# Altium integrated library Motorola Microcontroller 8-Bit.IntLib: 909 symbols (part 17 of 31)
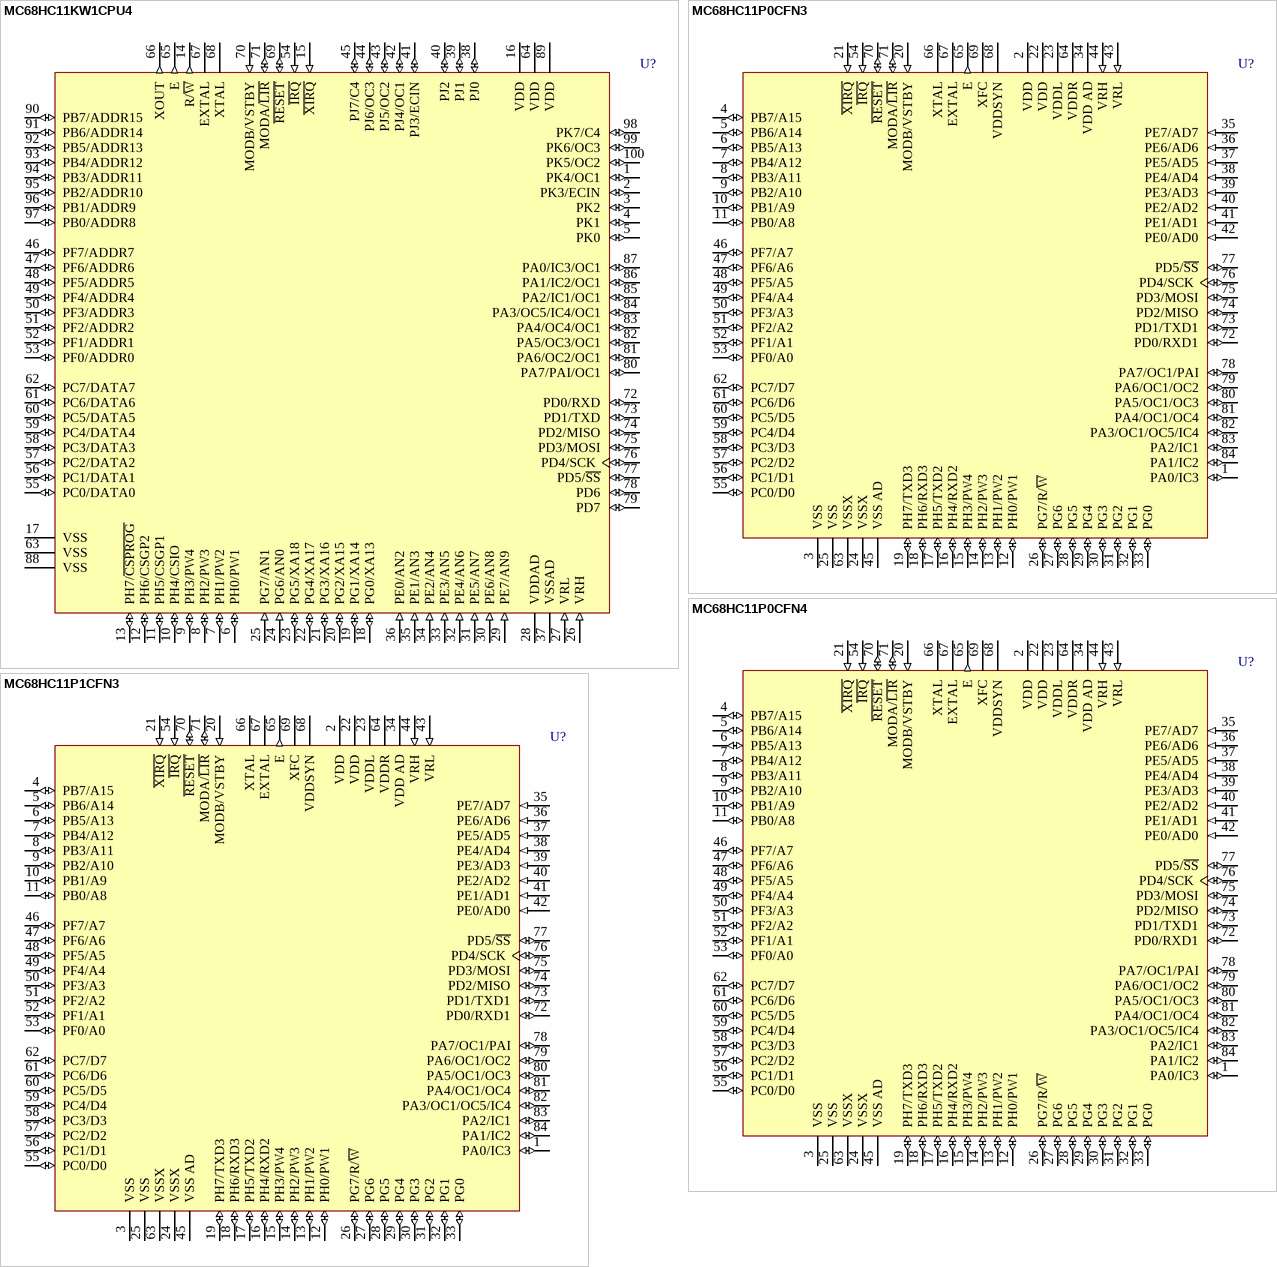
[diagram p129: symbols MC68HC11KW1CPU4 to MC68HC11P1CFN3]

## MC68HC11P0CFN3
designator U?
8-Bit Microcontroller; Published: 17-Jan-2003; LatestRevisionDate: 13-Apr-2006; LatestRevisionNote: IPC-7351 Footprint Added.; DatasheetVersion: 4-Apr-2002; PackageVersion: 1996; PackageReference: 780-01; Publisher: Altium Limited; PackageDescription: 84-Pin Leaded Chip Carrier 1.27 mm Pitch; Code_IPC: PLCC-84; ComponentLink1Description: Manufacturer Link; ComponentLink1URL: http://www.freescale.com/
footprint 780-01_N (Leaded Chip Carrier, 84-Leads, Body 29.3x29.3mm, Pitch 1.27mm, IPC Medium Density)
footprint 780-01_L (Leaded Chip Carrier, 84-Leads, Body 29.3x29.3mm, Pitch 1.27mm, IPC High Density)
footprint 780-01_M (Leaded Chip Carrier, 84-Leads, Body 29.3x29.3mm, Pitch 1.27mm, IPC Low Density)
3D model MC68HC11-780-01 (84-Pin Leaded Chip Carrier 1.27 mm Pitch)
pins: 1 PA0/IC3 (io), 2 VDD (power), 3 VSS (power), 4 PB7/A15 (io), 5 PB6/A14 (io), 6 PB5/A13 (io), 7 PB4/A12 (io), 8 PB3/A11 (io), 9 PB2/A10 (io), 10 PB1/A9 (io), 11 PB0/A8 (io), 12 PH0/PW1 (io), 13 PH1/PW2 (io), 14 PH2/PW3 (io), 15 PH3/PW4 (io), 16 PH4/RXD2 (io), 17 PH5/TXD2 (io), 18 PH6/RXD3 (io), 19 PH7/TXD3 (io), 20 MODB/VSTBY (in), 21 ~{XIRQ} (in), 22 VDD (power), 23 VDDL (power), 24 VSSX (power), 25 VSS (power), 26 PG7/R/~{W} (io), 27 PG6 (io), 28 PG5 (io), 29 PG4 (io), 30 PG3 (io), 31 PG2 (io), 32 PG1 (io), 33 PG0 (io), 34 VDD AD (power), 35 PE7/AD7 (in), 36 PE6/AD6 (in), 37 PE5/AD5 (in), 38 PE4/AD4 (in), 39 PE3/AD3 (in), 40 PE2/AD2 (in), 41 PE1/AD1 (in), 42 PE0/AD0 (in), 43 VRL (in), 44 VRH (in), 45 VSS AD (power), 46 PF7/A7 (io), 47 PF6/A6 (io), 48 PF5/A5 (io), 49 PF4/A4 (io), 50 PF3/A3 (io), 51 PF2/A2 (io), 52 PF1/A1 (io), 53 PF0/A0 (io), 54 ~{IRQ} (in), 55 PC0/D0 (io), 56 PC1/D1 (io), 57 PC2/D2 (io), 58 PC3/D3 (io), 59 PC4/D4 (io), 60 PC5/D5 (io), 61 PC6/D6 (io), 62 PC7/D7 (io), 63 VSSX (power), 64 VDDR (power), 65 E (out), 66 XTAL, 67 EXTAL, 68 VDDSYN (power), 69 XFC, 70 ~{RESET} (io), 71 MODA/~{LIR} (io), 72 PD0/RXD1 (io), 73 PD1/TXD1 (io), 74 PD2/MISO (io), 75 PD3/MOSI (io), 76 PD4/SCK (io), 77 PD5/~{SS} (io), 78 PA7/OC1/PAI (io), 79 PA6/OC1/OC2 (io), 80 PA5/OC1/OC3 (io), 81 PA4/OC1/OC4 (io), 82 PA3/OC1/OC5/IC4 (io), 83 PA2/IC1 (io), 84 PA1/IC2 (io)

## MC68HC11P0CFN4
designator U?
8-Bit Microcontroller; Published: 17-Jan-2003; LatestRevisionDate: 13-Apr-2006; LatestRevisionNote: IPC-7351 Footprint Added.; DatasheetVersion: 4-Apr-2002; PackageVersion: 1996; PackageReference: 780-01; Publisher: Altium Limited; PackageDescription: 84-Pin Leaded Chip Carrier 1.27 mm Pitch; Code_IPC: PLCC-84; ComponentLink1Description: Manufacturer Link; ComponentLink1URL: http://www.freescale.com/
footprint 780-01_N (Leaded Chip Carrier, 84-Leads, Body 29.3x29.3mm, Pitch 1.27mm, IPC Medium Density)
footprint 780-01_L (Leaded Chip Carrier, 84-Leads, Body 29.3x29.3mm, Pitch 1.27mm, IPC High Density)
footprint 780-01_M (Leaded Chip Carrier, 84-Leads, Body 29.3x29.3mm, Pitch 1.27mm, IPC Low Density)
3D model MC68HC11-780-01 (84-Pin Leaded Chip Carrier 1.27 mm Pitch)
pins: 1 PA0/IC3 (io), 2 VDD (power), 3 VSS (power), 4 PB7/A15 (io), 5 PB6/A14 (io), 6 PB5/A13 (io), 7 PB4/A12 (io), 8 PB3/A11 (io), 9 PB2/A10 (io), 10 PB1/A9 (io), 11 PB0/A8 (io), 12 PH0/PW1 (io), 13 PH1/PW2 (io), 14 PH2/PW3 (io), 15 PH3/PW4 (io), 16 PH4/RXD2 (io), 17 PH5/TXD2 (io), 18 PH6/RXD3 (io), 19 PH7/TXD3 (io), 20 MODB/VSTBY (in), 21 ~{XIRQ} (in), 22 VDD (power), 23 VDDL (power), 24 VSSX (power), 25 VSS (power), 26 PG7/R/~{W} (io), 27 PG6 (io), 28 PG5 (io), 29 PG4 (io), 30 PG3 (io), 31 PG2 (io), 32 PG1 (io), 33 PG0 (io), 34 VDD AD (power), 35 PE7/AD7 (in), 36 PE6/AD6 (in), 37 PE5/AD5 (in), 38 PE4/AD4 (in), 39 PE3/AD3 (in), 40 PE2/AD2 (in), 41 PE1/AD1 (in), 42 PE0/AD0 (in), 43 VRL (in), 44 VRH (in), 45 VSS AD (power), 46 PF7/A7 (io), 47 PF6/A6 (io), 48 PF5/A5 (io), 49 PF4/A4 (io), 50 PF3/A3 (io), 51 PF2/A2 (io), 52 PF1/A1 (io), 53 PF0/A0 (io), 54 ~{IRQ} (in), 55 PC0/D0 (io), 56 PC1/D1 (io), 57 PC2/D2 (io), 58 PC3/D3 (io), 59 PC4/D4 (io), 60 PC5/D5 (io), 61 PC6/D6 (io), 62 PC7/D7 (io), 63 VSSX (power), 64 VDDR (power), 65 E (out), 66 XTAL, 67 EXTAL, 68 VDDSYN (power), 69 XFC, 70 ~{RESET} (io), 71 MODA/~{LIR} (io), 72 PD0/RXD1 (io), 73 PD1/TXD1 (io), 74 PD2/MISO (io), 75 PD3/MOSI (io), 76 PD4/SCK (io), 77 PD5/~{SS} (io), 78 PA7/OC1/PAI (io), 79 PA6/OC1/OC2 (io), 80 PA5/OC1/OC3 (io), 81 PA4/OC1/OC4 (io), 82 PA3/OC1/OC5/IC4 (io), 83 PA2/IC1 (io), 84 PA1/IC2 (io)

## MC68HC11P1CFN3
designator U?
8-Bit Microcontroller; Published: 17-Jan-2003; LatestRevisionDate: 13-Apr-2006; LatestRevisionNote: IPC-7351 Footprint Added.; DatasheetVersion: 4-Apr-2002; PackageVersion: 1996; PackageReference: 780-01; Publisher: Altium Limited; PackageDescription: 84-Pin Leaded Chip Carrier 1.27 mm Pitch; Code_IPC: PLCC-84; ComponentLink1Description: Manufacturer Link; ComponentLink1URL: http://www.freescale.com/
footprint 780-01_N (Leaded Chip Carrier, 84-Leads, Body 29.3x29.3mm, Pitch 1.27mm, IPC Medium Density)
footprint 780-01_L (Leaded Chip Carrier, 84-Leads, Body 29.3x29.3mm, Pitch 1.27mm, IPC High Density)
footprint 780-01_M (Leaded Chip Carrier, 84-Leads, Body 29.3x29.3mm, Pitch 1.27mm, IPC Low Density)
3D model MC68HC11-780-01 (84-Pin Leaded Chip Carrier 1.27 mm Pitch)
pins: 1 PA0/IC3 (io), 2 VDD (power), 3 VSS (power), 4 PB7/A15 (io), 5 PB6/A14 (io), 6 PB5/A13 (io), 7 PB4/A12 (io), 8 PB3/A11 (io), 9 PB2/A10 (io), 10 PB1/A9 (io), 11 PB0/A8 (io), 12 PH0/PW1 (io), 13 PH1/PW2 (io), 14 PH2/PW3 (io), 15 PH3/PW4 (io), 16 PH4/RXD2 (io), 17 PH5/TXD2 (io), 18 PH6/RXD3 (io), 19 PH7/TXD3 (io), 20 MODB/VSTBY (in), 21 ~{XIRQ} (in), 22 VDD (power), 23 VDDL (power), 24 VSSX (power), 25 VSS (power), 26 PG7/R/~{W} (io), 27 PG6 (io), 28 PG5 (io), 29 PG4 (io), 30 PG3 (io), 31 PG2 (io), 32 PG1 (io), 33 PG0 (io), 34 VDD AD (power), 35 PE7/AD7 (in), 36 PE6/AD6 (in), 37 PE5/AD5 (in), 38 PE4/AD4 (in), 39 PE3/AD3 (in), 40 PE2/AD2 (in), 41 PE1/AD1 (in), 42 PE0/AD0 (in), 43 VRL (in), 44 VRH (in), 45 VSS AD (power), 46 PF7/A7 (io), 47 PF6/A6 (io), 48 PF5/A5 (io), 49 PF4/A4 (io), 50 PF3/A3 (io), 51 PF2/A2 (io), 52 PF1/A1 (io), 53 PF0/A0 (io), 54 ~{IRQ} (in), 55 PC0/D0 (io), 56 PC1/D1 (io), 57 PC2/D2 (io), 58 PC3/D3 (io), 59 PC4/D4 (io), 60 PC5/D5 (io), 61 PC6/D6 (io), 62 PC7/D7 (io), 63 VSSX (power), 64 VDDR (power), 65 E (out), 66 XTAL, 67 EXTAL, 68 VDDSYN (power), 69 XFC, 70 ~{RESET} (io), 71 MODA/~{LIR} (io), 72 PD0/RXD1 (io), 73 PD1/TXD1 (io), 74 PD2/MISO (io), 75 PD3/MOSI (io), 76 PD4/SCK (io), 77 PD5/~{SS} (io), 78 PA7/OC1/PAI (io), 79 PA6/OC1/OC2 (io), 80 PA5/OC1/OC3 (io), 81 PA4/OC1/OC4 (io), 82 PA3/OC1/OC5/IC4 (io), 83 PA2/IC1 (io), 84 PA1/IC2 (io)

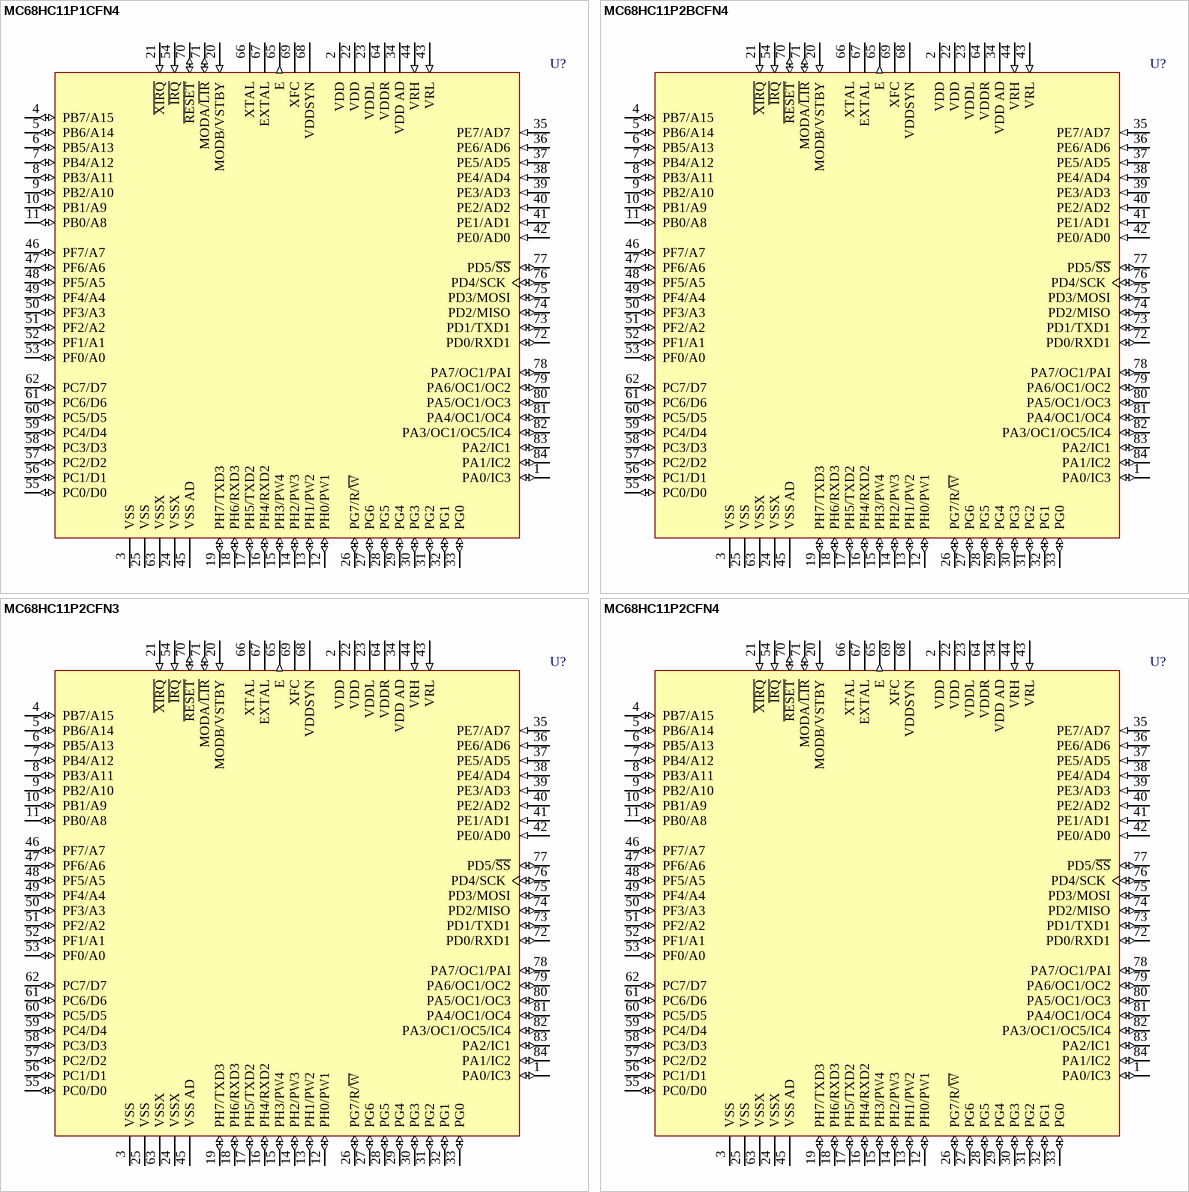
[diagram p64: symbols MC68HC11P1CFN4 to MC68HC11P2CFN4]

## MC68HC11P1CFN4
designator U?
8-Bit Microcontroller; Published: 17-Jan-2003; LatestRevisionDate: 13-Apr-2006; LatestRevisionNote: IPC-7351 Footprint Added.; DatasheetVersion: 4-Apr-2002; PackageVersion: 1996; PackageReference: 780-01; Publisher: Altium Limited; PackageDescription: 84-Pin Leaded Chip Carrier 1.27 mm Pitch; Code_IPC: PLCC-84; ComponentLink1Description: Manufacturer Link; ComponentLink1URL: http://www.freescale.com/
footprint 780-01_N (Leaded Chip Carrier, 84-Leads, Body 29.3x29.3mm, Pitch 1.27mm, IPC Medium Density)
footprint 780-01_L (Leaded Chip Carrier, 84-Leads, Body 29.3x29.3mm, Pitch 1.27mm, IPC High Density)
footprint 780-01_M (Leaded Chip Carrier, 84-Leads, Body 29.3x29.3mm, Pitch 1.27mm, IPC Low Density)
3D model MC68HC11-780-01 (84-Pin Leaded Chip Carrier 1.27 mm Pitch)
pins: 1 PA0/IC3 (io), 2 VDD (power), 3 VSS (power), 4 PB7/A15 (io), 5 PB6/A14 (io), 6 PB5/A13 (io), 7 PB4/A12 (io), 8 PB3/A11 (io), 9 PB2/A10 (io), 10 PB1/A9 (io), 11 PB0/A8 (io), 12 PH0/PW1 (io), 13 PH1/PW2 (io), 14 PH2/PW3 (io), 15 PH3/PW4 (io), 16 PH4/RXD2 (io), 17 PH5/TXD2 (io), 18 PH6/RXD3 (io), 19 PH7/TXD3 (io), 20 MODB/VSTBY (in), 21 ~{XIRQ} (in), 22 VDD (power), 23 VDDL (power), 24 VSSX (power), 25 VSS (power), 26 PG7/R/~{W} (io), 27 PG6 (io), 28 PG5 (io), 29 PG4 (io), 30 PG3 (io), 31 PG2 (io), 32 PG1 (io), 33 PG0 (io), 34 VDD AD (power), 35 PE7/AD7 (in), 36 PE6/AD6 (in), 37 PE5/AD5 (in), 38 PE4/AD4 (in), 39 PE3/AD3 (in), 40 PE2/AD2 (in), 41 PE1/AD1 (in), 42 PE0/AD0 (in), 43 VRL (in), 44 VRH (in), 45 VSS AD (power), 46 PF7/A7 (io), 47 PF6/A6 (io), 48 PF5/A5 (io), 49 PF4/A4 (io), 50 PF3/A3 (io), 51 PF2/A2 (io), 52 PF1/A1 (io), 53 PF0/A0 (io), 54 ~{IRQ} (in), 55 PC0/D0 (io), 56 PC1/D1 (io), 57 PC2/D2 (io), 58 PC3/D3 (io), 59 PC4/D4 (io), 60 PC5/D5 (io), 61 PC6/D6 (io), 62 PC7/D7 (io), 63 VSSX (power), 64 VDDR (power), 65 E (out), 66 XTAL, 67 EXTAL, 68 VDDSYN (power), 69 XFC, 70 ~{RESET} (io), 71 MODA/~{LIR} (io), 72 PD0/RXD1 (io), 73 PD1/TXD1 (io), 74 PD2/MISO (io), 75 PD3/MOSI (io), 76 PD4/SCK (io), 77 PD5/~{SS} (io), 78 PA7/OC1/PAI (io), 79 PA6/OC1/OC2 (io), 80 PA5/OC1/OC3 (io), 81 PA4/OC1/OC4 (io), 82 PA3/OC1/OC5/IC4 (io), 83 PA2/IC1 (io), 84 PA1/IC2 (io)

## MC68HC11P2BCFN4
designator U?
8-Bit Microcontroller; Published: 17-Jan-2003; LatestRevisionDate: 13-Apr-2006; LatestRevisionNote: IPC-7351 Footprint Added.; DatasheetVersion: 4-Apr-2002; PackageVersion: 1996; PackageReference: 780-01; Publisher: Altium Limited; PackageDescription: 84-Pin Leaded Chip Carrier 1.27 mm Pitch; Code_IPC: PLCC-84; ComponentLink1Description: Manufacturer Link; ComponentLink1URL: http://www.freescale.com/
footprint 780-01_N (Leaded Chip Carrier, 84-Leads, Body 29.3x29.3mm, Pitch 1.27mm, IPC Medium Density)
footprint 780-01_L (Leaded Chip Carrier, 84-Leads, Body 29.3x29.3mm, Pitch 1.27mm, IPC High Density)
footprint 780-01_M (Leaded Chip Carrier, 84-Leads, Body 29.3x29.3mm, Pitch 1.27mm, IPC Low Density)
3D model MC68HC11-780-01 (84-Pin Leaded Chip Carrier 1.27 mm Pitch)
pins: 1 PA0/IC3 (io), 2 VDD (power), 3 VSS (power), 4 PB7/A15 (io), 5 PB6/A14 (io), 6 PB5/A13 (io), 7 PB4/A12 (io), 8 PB3/A11 (io), 9 PB2/A10 (io), 10 PB1/A9 (io), 11 PB0/A8 (io), 12 PH0/PW1 (io), 13 PH1/PW2 (io), 14 PH2/PW3 (io), 15 PH3/PW4 (io), 16 PH4/RXD2 (io), 17 PH5/TXD2 (io), 18 PH6/RXD3 (io), 19 PH7/TXD3 (io), 20 MODB/VSTBY (in), 21 ~{XIRQ} (in), 22 VDD (power), 23 VDDL (power), 24 VSSX (power), 25 VSS (power), 26 PG7/R/~{W} (io), 27 PG6 (io), 28 PG5 (io), 29 PG4 (io), 30 PG3 (io), 31 PG2 (io), 32 PG1 (io), 33 PG0 (io), 34 VDD AD (power), 35 PE7/AD7 (in), 36 PE6/AD6 (in), 37 PE5/AD5 (in), 38 PE4/AD4 (in), 39 PE3/AD3 (in), 40 PE2/AD2 (in), 41 PE1/AD1 (in), 42 PE0/AD0 (in), 43 VRL (in), 44 VRH (in), 45 VSS AD (power), 46 PF7/A7 (io), 47 PF6/A6 (io), 48 PF5/A5 (io), 49 PF4/A4 (io), 50 PF3/A3 (io), 51 PF2/A2 (io), 52 PF1/A1 (io), 53 PF0/A0 (io), 54 ~{IRQ} (in), 55 PC0/D0 (io), 56 PC1/D1 (io), 57 PC2/D2 (io), 58 PC3/D3 (io), 59 PC4/D4 (io), 60 PC5/D5 (io), 61 PC6/D6 (io), 62 PC7/D7 (io), 63 VSSX (power), 64 VDDR (power), 65 E (out), 66 XTAL, 67 EXTAL, 68 VDDSYN (power), 69 XFC, 70 ~{RESET} (io), 71 MODA/~{LIR} (io), 72 PD0/RXD1 (io), 73 PD1/TXD1 (io), 74 PD2/MISO (io), 75 PD3/MOSI (io), 76 PD4/SCK (io), 77 PD5/~{SS} (io), 78 PA7/OC1/PAI (io), 79 PA6/OC1/OC2 (io), 80 PA5/OC1/OC3 (io), 81 PA4/OC1/OC4 (io), 82 PA3/OC1/OC5/IC4 (io), 83 PA2/IC1 (io), 84 PA1/IC2 (io)

## MC68HC11P2CFN3
designator U?
8-Bit Microcontroller; Published: 17-Jan-2003; LatestRevisionDate: 13-Apr-2006; LatestRevisionNote: IPC-7351 Footprint Added.; DatasheetVersion: 4-Apr-2002; PackageVersion: 1996; PackageReference: 780-01; Publisher: Altium Limited; PackageDescription: 84-Pin Leaded Chip Carrier 1.27 mm Pitch; Code_IPC: PLCC-84; ComponentLink1Description: Manufacturer Link; ComponentLink1URL: http://www.freescale.com/
footprint 780-01_N (Leaded Chip Carrier, 84-Leads, Body 29.3x29.3mm, Pitch 1.27mm, IPC Medium Density)
footprint 780-01_L (Leaded Chip Carrier, 84-Leads, Body 29.3x29.3mm, Pitch 1.27mm, IPC High Density)
footprint 780-01_M (Leaded Chip Carrier, 84-Leads, Body 29.3x29.3mm, Pitch 1.27mm, IPC Low Density)
3D model MC68HC11-780-01 (84-Pin Leaded Chip Carrier 1.27 mm Pitch)
pins: 1 PA0/IC3 (io), 2 VDD (power), 3 VSS (power), 4 PB7/A15 (io), 5 PB6/A14 (io), 6 PB5/A13 (io), 7 PB4/A12 (io), 8 PB3/A11 (io), 9 PB2/A10 (io), 10 PB1/A9 (io), 11 PB0/A8 (io), 12 PH0/PW1 (io), 13 PH1/PW2 (io), 14 PH2/PW3 (io), 15 PH3/PW4 (io), 16 PH4/RXD2 (io), 17 PH5/TXD2 (io), 18 PH6/RXD3 (io), 19 PH7/TXD3 (io), 20 MODB/VSTBY (in), 21 ~{XIRQ} (in), 22 VDD (power), 23 VDDL (power), 24 VSSX (power), 25 VSS (power), 26 PG7/R/~{W} (io), 27 PG6 (io), 28 PG5 (io), 29 PG4 (io), 30 PG3 (io), 31 PG2 (io), 32 PG1 (io), 33 PG0 (io), 34 VDD AD (power), 35 PE7/AD7 (in), 36 PE6/AD6 (in), 37 PE5/AD5 (in), 38 PE4/AD4 (in), 39 PE3/AD3 (in), 40 PE2/AD2 (in), 41 PE1/AD1 (in), 42 PE0/AD0 (in), 43 VRL (in), 44 VRH (in), 45 VSS AD (power), 46 PF7/A7 (io), 47 PF6/A6 (io), 48 PF5/A5 (io), 49 PF4/A4 (io), 50 PF3/A3 (io), 51 PF2/A2 (io), 52 PF1/A1 (io), 53 PF0/A0 (io), 54 ~{IRQ} (in), 55 PC0/D0 (io), 56 PC1/D1 (io), 57 PC2/D2 (io), 58 PC3/D3 (io), 59 PC4/D4 (io), 60 PC5/D5 (io), 61 PC6/D6 (io), 62 PC7/D7 (io), 63 VSSX (power), 64 VDDR (power), 65 E (out), 66 XTAL, 67 EXTAL, 68 VDDSYN (power), 69 XFC, 70 ~{RESET} (io), 71 MODA/~{LIR} (io), 72 PD0/RXD1 (io), 73 PD1/TXD1 (io), 74 PD2/MISO (io), 75 PD3/MOSI (io), 76 PD4/SCK (io), 77 PD5/~{SS} (io), 78 PA7/OC1/PAI (io), 79 PA6/OC1/OC2 (io), 80 PA5/OC1/OC3 (io), 81 PA4/OC1/OC4 (io), 82 PA3/OC1/OC5/IC4 (io), 83 PA2/IC1 (io), 84 PA1/IC2 (io)

## MC68HC11P2CFN4
designator U?
8-Bit Microcontroller; Published: 17-Jan-2003; LatestRevisionDate: 13-Apr-2006; LatestRevisionNote: IPC-7351 Footprint Added.; DatasheetVersion: 4-Apr-2002; PackageVersion: 1996; PackageReference: 780-01; Publisher: Altium Limited; PackageDescription: 84-Pin Leaded Chip Carrier 1.27 mm Pitch; Code_IPC: PLCC-84; ComponentLink1Description: Manufacturer Link; ComponentLink1URL: http://www.freescale.com/
footprint 780-01_N (Leaded Chip Carrier, 84-Leads, Body 29.3x29.3mm, Pitch 1.27mm, IPC Medium Density)
footprint 780-01_L (Leaded Chip Carrier, 84-Leads, Body 29.3x29.3mm, Pitch 1.27mm, IPC High Density)
footprint 780-01_M (Leaded Chip Carrier, 84-Leads, Body 29.3x29.3mm, Pitch 1.27mm, IPC Low Density)
3D model MC68HC11-780-01 (84-Pin Leaded Chip Carrier 1.27 mm Pitch)
pins: 1 PA0/IC3 (io), 2 VDD (power), 3 VSS (power), 4 PB7/A15 (io), 5 PB6/A14 (io), 6 PB5/A13 (io), 7 PB4/A12 (io), 8 PB3/A11 (io), 9 PB2/A10 (io), 10 PB1/A9 (io), 11 PB0/A8 (io), 12 PH0/PW1 (io), 13 PH1/PW2 (io), 14 PH2/PW3 (io), 15 PH3/PW4 (io), 16 PH4/RXD2 (io), 17 PH5/TXD2 (io), 18 PH6/RXD3 (io), 19 PH7/TXD3 (io), 20 MODB/VSTBY (in), 21 ~{XIRQ} (in), 22 VDD (power), 23 VDDL (power), 24 VSSX (power), 25 VSS (power), 26 PG7/R/~{W} (io), 27 PG6 (io), 28 PG5 (io), 29 PG4 (io), 30 PG3 (io), 31 PG2 (io), 32 PG1 (io), 33 PG0 (io), 34 VDD AD (power), 35 PE7/AD7 (in), 36 PE6/AD6 (in), 37 PE5/AD5 (in), 38 PE4/AD4 (in), 39 PE3/AD3 (in), 40 PE2/AD2 (in), 41 PE1/AD1 (in), 42 PE0/AD0 (in), 43 VRL (in), 44 VRH (in), 45 VSS AD (power), 46 PF7/A7 (io), 47 PF6/A6 (io), 48 PF5/A5 (io), 49 PF4/A4 (io), 50 PF3/A3 (io), 51 PF2/A2 (io), 52 PF1/A1 (io), 53 PF0/A0 (io), 54 ~{IRQ} (in), 55 PC0/D0 (io), 56 PC1/D1 (io), 57 PC2/D2 (io), 58 PC3/D3 (io), 59 PC4/D4 (io), 60 PC5/D5 (io), 61 PC6/D6 (io), 62 PC7/D7 (io), 63 VSSX (power), 64 VDDR (power), 65 E (out), 66 XTAL, 67 EXTAL, 68 VDDSYN (power), 69 XFC, 70 ~{RESET} (io), 71 MODA/~{LIR} (io), 72 PD0/RXD1 (io), 73 PD1/TXD1 (io), 74 PD2/MISO (io), 75 PD3/MOSI (io), 76 PD4/SCK (io), 77 PD5/~{SS} (io), 78 PA7/OC1/PAI (io), 79 PA6/OC1/OC2 (io), 80 PA5/OC1/OC3 (io), 81 PA4/OC1/OC4 (io), 82 PA3/OC1/OC5/IC4 (io), 83 PA2/IC1 (io), 84 PA1/IC2 (io)

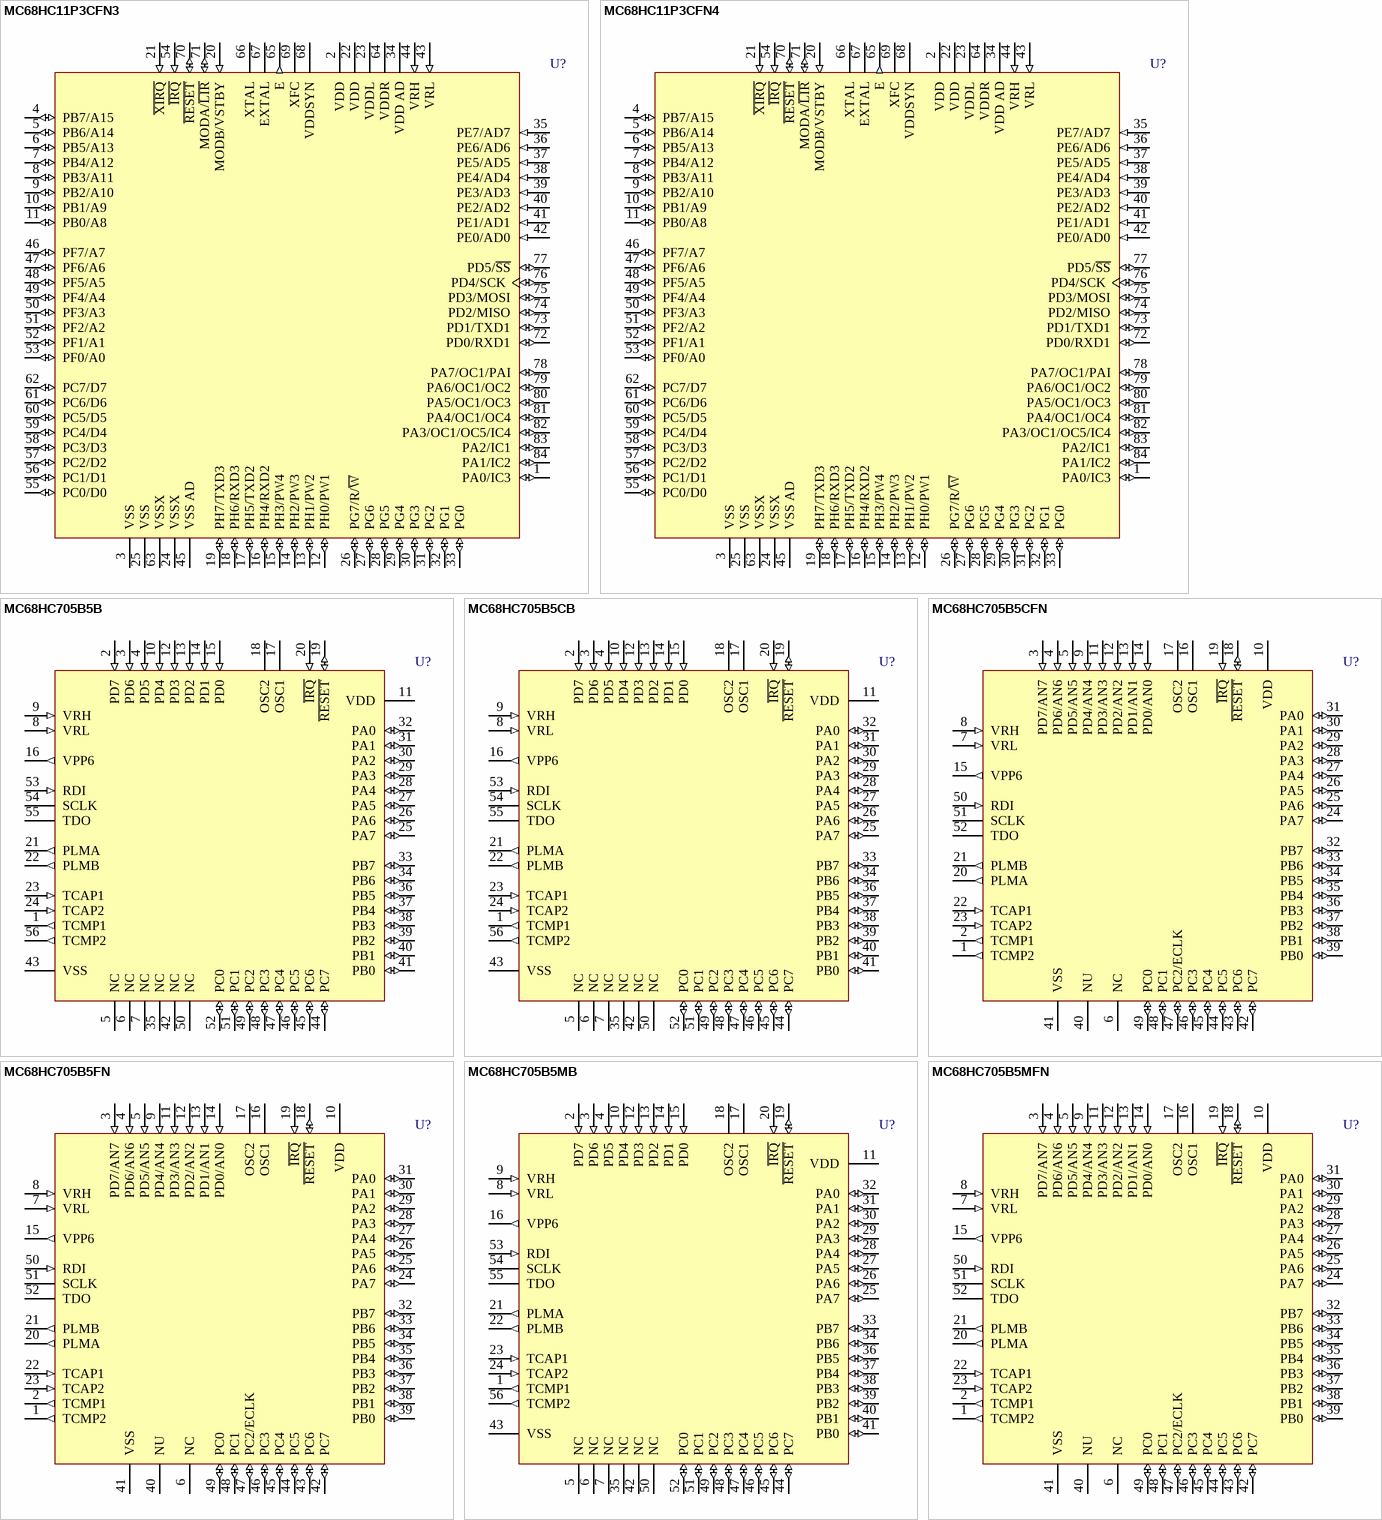
[diagram p65: symbols MC68HC11P3CFN3 to MC68HC705B5MFN]

## MC68HC11P3CFN3
designator U?
8-Bit Microcontroller; Published: 17-Jan-2003; LatestRevisionDate: 13-Apr-2006; LatestRevisionNote: IPC-7351 Footprint Added.; DatasheetVersion: 4-Apr-2002; PackageVersion: 1996; PackageReference: 780-01; Publisher: Altium Limited; PackageDescription: 84-Pin Leaded Chip Carrier 1.27 mm Pitch; Code_IPC: PLCC-84; ComponentLink1Description: Manufacturer Link; ComponentLink1URL: http://www.freescale.com/
footprint 780-01_N (Leaded Chip Carrier, 84-Leads, Body 29.3x29.3mm, Pitch 1.27mm, IPC Medium Density)
footprint 780-01_L (Leaded Chip Carrier, 84-Leads, Body 29.3x29.3mm, Pitch 1.27mm, IPC High Density)
footprint 780-01_M (Leaded Chip Carrier, 84-Leads, Body 29.3x29.3mm, Pitch 1.27mm, IPC Low Density)
3D model MC68HC11-780-01 (84-Pin Leaded Chip Carrier 1.27 mm Pitch)
pins: 1 PA0/IC3 (io), 2 VDD (power), 3 VSS (power), 4 PB7/A15 (io), 5 PB6/A14 (io), 6 PB5/A13 (io), 7 PB4/A12 (io), 8 PB3/A11 (io), 9 PB2/A10 (io), 10 PB1/A9 (io), 11 PB0/A8 (io), 12 PH0/PW1 (io), 13 PH1/PW2 (io), 14 PH2/PW3 (io), 15 PH3/PW4 (io), 16 PH4/RXD2 (io), 17 PH5/TXD2 (io), 18 PH6/RXD3 (io), 19 PH7/TXD3 (io), 20 MODB/VSTBY (in), 21 ~{XIRQ} (in), 22 VDD (power), 23 VDDL (power), 24 VSSX (power), 25 VSS (power), 26 PG7/R/~{W} (io), 27 PG6 (io), 28 PG5 (io), 29 PG4 (io), 30 PG3 (io), 31 PG2 (io), 32 PG1 (io), 33 PG0 (io), 34 VDD AD (power), 35 PE7/AD7 (in), 36 PE6/AD6 (in), 37 PE5/AD5 (in), 38 PE4/AD4 (in), 39 PE3/AD3 (in), 40 PE2/AD2 (in), 41 PE1/AD1 (in), 42 PE0/AD0 (in), 43 VRL (in), 44 VRH (in), 45 VSS AD (power), 46 PF7/A7 (io), 47 PF6/A6 (io), 48 PF5/A5 (io), 49 PF4/A4 (io), 50 PF3/A3 (io), 51 PF2/A2 (io), 52 PF1/A1 (io), 53 PF0/A0 (io), 54 ~{IRQ} (in), 55 PC0/D0 (io), 56 PC1/D1 (io), 57 PC2/D2 (io), 58 PC3/D3 (io), 59 PC4/D4 (io), 60 PC5/D5 (io), 61 PC6/D6 (io), 62 PC7/D7 (io), 63 VSSX (power), 64 VDDR (power), 65 E (out), 66 XTAL, 67 EXTAL, 68 VDDSYN (power), 69 XFC, 70 ~{RESET} (io), 71 MODA/~{LIR} (io), 72 PD0/RXD1 (io), 73 PD1/TXD1 (io), 74 PD2/MISO (io), 75 PD3/MOSI (io), 76 PD4/SCK (io), 77 PD5/~{SS} (io), 78 PA7/OC1/PAI (io), 79 PA6/OC1/OC2 (io), 80 PA5/OC1/OC3 (io), 81 PA4/OC1/OC4 (io), 82 PA3/OC1/OC5/IC4 (io), 83 PA2/IC1 (io), 84 PA1/IC2 (io)

## MC68HC11P3CFN4
designator U?
8-Bit Microcontroller; Published: 17-Jan-2003; LatestRevisionDate: 13-Apr-2006; LatestRevisionNote: IPC-7351 Footprint Added.; DatasheetVersion: 4-Apr-2002; PackageVersion: 1996; PackageReference: 780-01; Publisher: Altium Limited; PackageDescription: 84-Pin Leaded Chip Carrier 1.27 mm Pitch; Code_IPC: PLCC-84; ComponentLink1Description: Manufacturer Link; ComponentLink1URL: http://www.freescale.com/
footprint 780-01_N (Leaded Chip Carrier, 84-Leads, Body 29.3x29.3mm, Pitch 1.27mm, IPC Medium Density)
footprint 780-01_L (Leaded Chip Carrier, 84-Leads, Body 29.3x29.3mm, Pitch 1.27mm, IPC High Density)
footprint 780-01_M (Leaded Chip Carrier, 84-Leads, Body 29.3x29.3mm, Pitch 1.27mm, IPC Low Density)
3D model MC68HC11-780-01 (84-Pin Leaded Chip Carrier 1.27 mm Pitch)
pins: 1 PA0/IC3 (io), 2 VDD (power), 3 VSS (power), 4 PB7/A15 (io), 5 PB6/A14 (io), 6 PB5/A13 (io), 7 PB4/A12 (io), 8 PB3/A11 (io), 9 PB2/A10 (io), 10 PB1/A9 (io), 11 PB0/A8 (io), 12 PH0/PW1 (io), 13 PH1/PW2 (io), 14 PH2/PW3 (io), 15 PH3/PW4 (io), 16 PH4/RXD2 (io), 17 PH5/TXD2 (io), 18 PH6/RXD3 (io), 19 PH7/TXD3 (io), 20 MODB/VSTBY (in), 21 ~{XIRQ} (in), 22 VDD (power), 23 VDDL (power), 24 VSSX (power), 25 VSS (power), 26 PG7/R/~{W} (io), 27 PG6 (io), 28 PG5 (io), 29 PG4 (io), 30 PG3 (io), 31 PG2 (io), 32 PG1 (io), 33 PG0 (io), 34 VDD AD (power), 35 PE7/AD7 (in), 36 PE6/AD6 (in), 37 PE5/AD5 (in), 38 PE4/AD4 (in), 39 PE3/AD3 (in), 40 PE2/AD2 (in), 41 PE1/AD1 (in), 42 PE0/AD0 (in), 43 VRL (in), 44 VRH (in), 45 VSS AD (power), 46 PF7/A7 (io), 47 PF6/A6 (io), 48 PF5/A5 (io), 49 PF4/A4 (io), 50 PF3/A3 (io), 51 PF2/A2 (io), 52 PF1/A1 (io), 53 PF0/A0 (io), 54 ~{IRQ} (in), 55 PC0/D0 (io), 56 PC1/D1 (io), 57 PC2/D2 (io), 58 PC3/D3 (io), 59 PC4/D4 (io), 60 PC5/D5 (io), 61 PC6/D6 (io), 62 PC7/D7 (io), 63 VSSX (power), 64 VDDR (power), 65 E (out), 66 XTAL, 67 EXTAL, 68 VDDSYN (power), 69 XFC, 70 ~{RESET} (io), 71 MODA/~{LIR} (io), 72 PD0/RXD1 (io), 73 PD1/TXD1 (io), 74 PD2/MISO (io), 75 PD3/MOSI (io), 76 PD4/SCK (io), 77 PD5/~{SS} (io), 78 PA7/OC1/PAI (io), 79 PA6/OC1/OC2 (io), 80 PA5/OC1/OC3 (io), 81 PA4/OC1/OC4 (io), 82 PA3/OC1/OC5/IC4 (io), 83 PA2/IC1 (io), 84 PA1/IC2 (io)

## MC68HC705B5B
designator U?
8-Bit Microcontroller; Published: 17-Jan-2003; LatestRevisionDate: 06-Jun-2005; LatestRevisionNote: Stylized 3D Model Added.; DatasheetVersion: Rev 4, 1999; PackageVersion: rev4, 1999; PackageReference: 859-01; Publisher: Altium Limited; PackageDescription: DIP; 56 Leads; Row Spacing 15.24 mm; Pitch 1.778 mm; ComponentLink1Description: Manufacturer Link; ComponentLink1URL: http://www.freescale.com/; ComponentLink2Description: Datasheet; ComponentLink2URL: http://www.freescale.com/files/microcontrollers/doc/data_sheet/MC68HC05B6.pdf
footprint 859-01 (DIP; 56 Leads; Row Spacing 15.24 mm; Pitch 1.778 mm)
3D model 859-01 (DIP; 56 Leads; Row Spacing 15.24 mm; Pitch 1.778 mm)
pins: 1 TCMP1 (out), 2 PD7 (in), 3 PD6 (in), 4 PD5 (in), 5 NC, 6 NC, 7 NC, 8 VRL (in), 9 VRH (in), 10 PD4 (in), 11 VDD (power), 12 PD3 (in), 13 PD2 (in), 14 PD1 (in), 15 PD0 (in), 16 VPP6 (out), 17 OSC1, 18 OSC2, 19 ~{RESET} (io), 20 ~{IRQ} (in), 21 PLMA (out), 22 PLMB (out), 23 TCAP1 (in), 24 TCAP2 (in), 25 PA7 (io), 26 PA6 (io), 27 PA5 (io), 28 PA4 (io), 29 PA3 (io), 30 PA2 (io), 31 PA1 (io), 32 PA0 (io), 33 PB7 (io), 34 PB6 (io), 35 NC, 36 PB5 (io), 37 PB4 (io), 38 PB3 (io), 39 PB2 (io), 40 PB1 (io), 41 PB0 (io), 42 NC, 43 VSS (power), 44 PC7 (io), 45 PC6 (io), 46 PC5 (io), 47 PC4 (io), 48 PC3 (io), 49 PC2 (io), 50 NC, 51 PC1 (io), 52 PC0 (io), 53 RDI (in), 54 SCLK (hiz), 55 TDO (hiz), 56 TCMP2 (out)

## MC68HC705B5CB
designator U?
8-Bit Microcontroller; Published: 17-Jan-2003; LatestRevisionDate: 06-Jun-2005; LatestRevisionNote: Stylized 3D Model Added.; DatasheetVersion: Rev 4, 1999; PackageVersion: rev4, 1999; PackageReference: 859-01; Publisher: Altium Limited; PackageDescription: DIP; 56 Leads; Row Spacing 15.24 mm; Pitch 1.778 mm; ComponentLink1Description: Manufacturer Link; ComponentLink1URL: http://www.freescale.com/; ComponentLink2Description: Datasheet; ComponentLink2URL: http://www.freescale.com/files/microcontrollers/doc/data_sheet/MC68HC05B6.pdf
footprint 859-01 (DIP; 56 Leads; Row Spacing 15.24 mm; Pitch 1.778 mm)
3D model 859-01 (DIP; 56 Leads; Row Spacing 15.24 mm; Pitch 1.778 mm)
pins: 1 TCMP1 (out), 2 PD7 (in), 3 PD6 (in), 4 PD5 (in), 5 NC, 6 NC, 7 NC, 8 VRL (in), 9 VRH (in), 10 PD4 (in), 11 VDD (power), 12 PD3 (in), 13 PD2 (in), 14 PD1 (in), 15 PD0 (in), 16 VPP6 (out), 17 OSC1, 18 OSC2, 19 ~{RESET} (io), 20 ~{IRQ} (in), 21 PLMA (out), 22 PLMB (out), 23 TCAP1 (in), 24 TCAP2 (in), 25 PA7 (io), 26 PA6 (io), 27 PA5 (io), 28 PA4 (io), 29 PA3 (io), 30 PA2 (io), 31 PA1 (io), 32 PA0 (io), 33 PB7 (io), 34 PB6 (io), 35 NC, 36 PB5 (io), 37 PB4 (io), 38 PB3 (io), 39 PB2 (io), 40 PB1 (io), 41 PB0 (io), 42 NC, 43 VSS (power), 44 PC7 (io), 45 PC6 (io), 46 PC5 (io), 47 PC4 (io), 48 PC3 (io), 49 PC2 (io), 50 NC, 51 PC1 (io), 52 PC0 (io), 53 RDI (in), 54 SCLK (hiz), 55 TDO (hiz), 56 TCMP2 (out)

## MC68HC705B5CFN
designator U?
8-Bit Microcontroller; Note: Pin 40 (NU) should be tied to VSS in an electrically noisy environment.; Published: 17-Jan-2003; LatestRevisionDate: 13-Apr-2006; LatestRevisionNote: IPC-7351 Footprint Added.; DatasheetVersion: Rev 4, 1999; PackageVersion: rev3, 1997; PackageReference: 778-02; Publisher: Altium Limited; PackageDescription: 52-Pin Plastic Leaded Chip Carrier 1.27 mm Pitch; ComponentLink1Description: Manufacturer Link; ComponentLink1URL: http://www.freescale.com/; ComponentLink2Description: Datasheet; ComponentLink2URL: http://www.freescale.com/files/microcontrollers/doc/data_sheet/MC68HC05B6.pdf
footprint 778-02_N (Leaded Chip Carrier, 52-Leads, Body 19x19mm, Pitch 1.27mm, IPC Medium Density)
footprint 778-02_L (Leaded Chip Carrier, 52-Leads, Body 19x19mm, Pitch 1.27mm, IPC High Density)
footprint 778-02_M (Leaded Chip Carrier, 52-Leads, Body 19x19mm, Pitch 1.27mm, IPC Low Density)
3D model MC68HC705-778-02 (52-Pin Plastic Leaded Chip Carrier 1.27 mm Pitch)
pins: 1 TCMP2 (out), 2 TCMP1 (out), 3 PD7/AN7 (in), 4 PD6/AN6 (in), 5 PD5/AN5 (in), 6 NC, 7 VRL (in), 8 VRH (in), 9 PD4/AN4 (in), 10 VDD (power), 11 PD3/AN3 (in), 12 PD2/AN2 (in), 13 PD1/AN1 (in), 14 PD0/AN0 (in), 15 VPP6 (out), 16 OSC1, 17 OSC2, 18 ~{RESET} (io), 19 ~{IRQ} (in), 20 PLMA (out), 21 PLMB (out), 22 TCAP1 (in), 23 TCAP2 (in), 24 PA7 (io), 25 PA6 (io), 26 PA5 (io), 27 PA4 (io), 28 PA3 (io), 29 PA2 (io), 30 PA1 (io), 31 PA0 (io), 32 PB7 (io), 33 PB6 (io), 34 PB5 (io), 35 PB4 (io), 36 PB3 (io), 37 PB2 (io), 38 PB1 (io), 39 PB0 (io), 40 NU, 41 VSS (power), 42 PC7 (io), 43 PC6 (io), 44 PC5 (io), 45 PC4 (io), 46 PC3 (io), 47 PC2/ECLK (io), 48 PC1 (io), 49 PC0 (io), 50 RDI (in), 51 SCLK (hiz), 52 TDO (hiz)

## MC68HC705B5FN
designator U?
8-Bit Microcontroller; Note: Pin 40 (NU) should be tied to VSS in an electrically noisy environment.; Published: 17-Jan-2003; LatestRevisionDate: 13-Apr-2006; LatestRevisionNote: IPC-7351 Footprint Added.; DatasheetVersion: Rev 4, 1999; PackageVersion: rev3, 1997; PackageReference: 778-02; Publisher: Altium Limited; PackageDescription: 52-Pin Plastic Leaded Chip Carrier 1.27 mm Pitch; ComponentLink1Description: Manufacturer Link; ComponentLink1URL: http://www.freescale.com/; ComponentLink2Description: Datasheet; ComponentLink2URL: http://www.freescale.com/files/microcontrollers/doc/data_sheet/MC68HC05B6.pdf
footprint 778-02_N (Leaded Chip Carrier, 52-Leads, Body 19x19mm, Pitch 1.27mm, IPC Medium Density)
footprint 778-02_L (Leaded Chip Carrier, 52-Leads, Body 19x19mm, Pitch 1.27mm, IPC High Density)
footprint 778-02_M (Leaded Chip Carrier, 52-Leads, Body 19x19mm, Pitch 1.27mm, IPC Low Density)
3D model MC68HC705-778-02 (52-Pin Plastic Leaded Chip Carrier 1.27 mm Pitch)
pins: 1 TCMP2 (out), 2 TCMP1 (out), 3 PD7/AN7 (in), 4 PD6/AN6 (in), 5 PD5/AN5 (in), 6 NC, 7 VRL (in), 8 VRH (in), 9 PD4/AN4 (in), 10 VDD (power), 11 PD3/AN3 (in), 12 PD2/AN2 (in), 13 PD1/AN1 (in), 14 PD0/AN0 (in), 15 VPP6 (out), 16 OSC1, 17 OSC2, 18 ~{RESET} (io), 19 ~{IRQ} (in), 20 PLMA (out), 21 PLMB (out), 22 TCAP1 (in), 23 TCAP2 (in), 24 PA7 (io), 25 PA6 (io), 26 PA5 (io), 27 PA4 (io), 28 PA3 (io), 29 PA2 (io), 30 PA1 (io), 31 PA0 (io), 32 PB7 (io), 33 PB6 (io), 34 PB5 (io), 35 PB4 (io), 36 PB3 (io), 37 PB2 (io), 38 PB1 (io), 39 PB0 (io), 40 NU, 41 VSS (power), 42 PC7 (io), 43 PC6 (io), 44 PC5 (io), 45 PC4 (io), 46 PC3 (io), 47 PC2/ECLK (io), 48 PC1 (io), 49 PC0 (io), 50 RDI (in), 51 SCLK (hiz), 52 TDO (hiz)

## MC68HC705B5MB
designator U?
8-Bit Microcontroller; Published: 17-Jan-2003; LatestRevisionDate: 06-Jun-2005; LatestRevisionNote: Stylized 3D Model Added.; DatasheetVersion: Rev 4, 1999; PackageVersion: rev4, 1999; PackageReference: 859-01; Publisher: Altium Limited; PackageDescription: DIP; 56 Leads; Row Spacing 15.24 mm; Pitch 1.778 mm; ComponentLink1Description: Manufacturer Link; ComponentLink1URL: http://www.freescale.com/; ComponentLink2Description: Datasheet; ComponentLink2URL: http://www.freescale.com/files/microcontrollers/doc/data_sheet/MC68HC05B6.pdf
footprint 859-01 (DIP; 56 Leads; Row Spacing 15.24 mm; Pitch 1.778 mm)
3D model 859-01 (DIP; 56 Leads; Row Spacing 15.24 mm; Pitch 1.778 mm)
pins: 1 TCMP1 (out), 2 PD7 (in), 3 PD6 (in), 4 PD5 (in), 5 NC, 6 NC, 7 NC, 8 VRL (in), 9 VRH (in), 10 PD4 (in), 11 VDD (power), 12 PD3 (in), 13 PD2 (in), 14 PD1 (in), 15 PD0 (in), 16 VPP6 (out), 17 OSC1, 18 OSC2, 19 ~{RESET} (io), 20 ~{IRQ} (in), 21 PLMA (out), 22 PLMB (out), 23 TCAP1 (in), 24 TCAP2 (in), 25 PA7 (io), 26 PA6 (io), 27 PA5 (io), 28 PA4 (io), 29 PA3 (io), 30 PA2 (io), 31 PA1 (io), 32 PA0 (io), 33 PB7 (io), 34 PB6 (io), 35 NC, 36 PB5 (io), 37 PB4 (io), 38 PB3 (io), 39 PB2 (io), 40 PB1 (io), 41 PB0 (io), 42 NC, 43 VSS (power), 44 PC7 (io), 45 PC6 (io), 46 PC5 (io), 47 PC4 (io), 48 PC3 (io), 49 PC2 (io), 50 NC, 51 PC1 (io), 52 PC0 (io), 53 RDI (in), 54 SCLK (hiz), 55 TDO (hiz), 56 TCMP2 (out)

## MC68HC705B5MFN
designator U?
8-Bit Microcontroller; Note: Pin 40 (NU) should be tied to VSS in an electrically noisy environment.; Published: 17-Jan-2003; LatestRevisionDate: 13-Apr-2006; LatestRevisionNote: IPC-7351 Footprint Added.; DatasheetVersion: Rev 4, 1999; PackageVersion: rev3, 1997; PackageReference: 778-02; Publisher: Altium Limited; PackageDescription: 52-Pin Plastic Leaded Chip Carrier 1.27 mm Pitch; ComponentLink1Description: Manufacturer Link; ComponentLink1URL: http://www.freescale.com/; ComponentLink2Description: Datasheet; ComponentLink2URL: http://www.freescale.com/files/microcontrollers/doc/data_sheet/MC68HC05B6.pdf
footprint 778-02_N (Leaded Chip Carrier, 52-Leads, Body 19x19mm, Pitch 1.27mm, IPC Medium Density)
footprint 778-02_L (Leaded Chip Carrier, 52-Leads, Body 19x19mm, Pitch 1.27mm, IPC High Density)
footprint 778-02_M (Leaded Chip Carrier, 52-Leads, Body 19x19mm, Pitch 1.27mm, IPC Low Density)
3D model MC68HC705-778-02 (52-Pin Plastic Leaded Chip Carrier 1.27 mm Pitch)
pins: 1 TCMP2 (out), 2 TCMP1 (out), 3 PD7/AN7 (in), 4 PD6/AN6 (in), 5 PD5/AN5 (in), 6 NC, 7 VRL (in), 8 VRH (in), 9 PD4/AN4 (in), 10 VDD (power), 11 PD3/AN3 (in), 12 PD2/AN2 (in), 13 PD1/AN1 (in), 14 PD0/AN0 (in), 15 VPP6 (out), 16 OSC1, 17 OSC2, 18 ~{RESET} (io), 19 ~{IRQ} (in), 20 PLMA (out), 21 PLMB (out), 22 TCAP1 (in), 23 TCAP2 (in), 24 PA7 (io), 25 PA6 (io), 26 PA5 (io), 27 PA4 (io), 28 PA3 (io), 29 PA2 (io), 30 PA1 (io), 31 PA0 (io), 32 PB7 (io), 33 PB6 (io), 34 PB5 (io), 35 PB4 (io), 36 PB3 (io), 37 PB2 (io), 38 PB1 (io), 39 PB0 (io), 40 NU, 41 VSS (power), 42 PC7 (io), 43 PC6 (io), 44 PC5 (io), 45 PC4 (io), 46 PC3 (io), 47 PC2/ECLK (io), 48 PC1 (io), 49 PC0 (io), 50 RDI (in), 51 SCLK (hiz), 52 TDO (hiz)

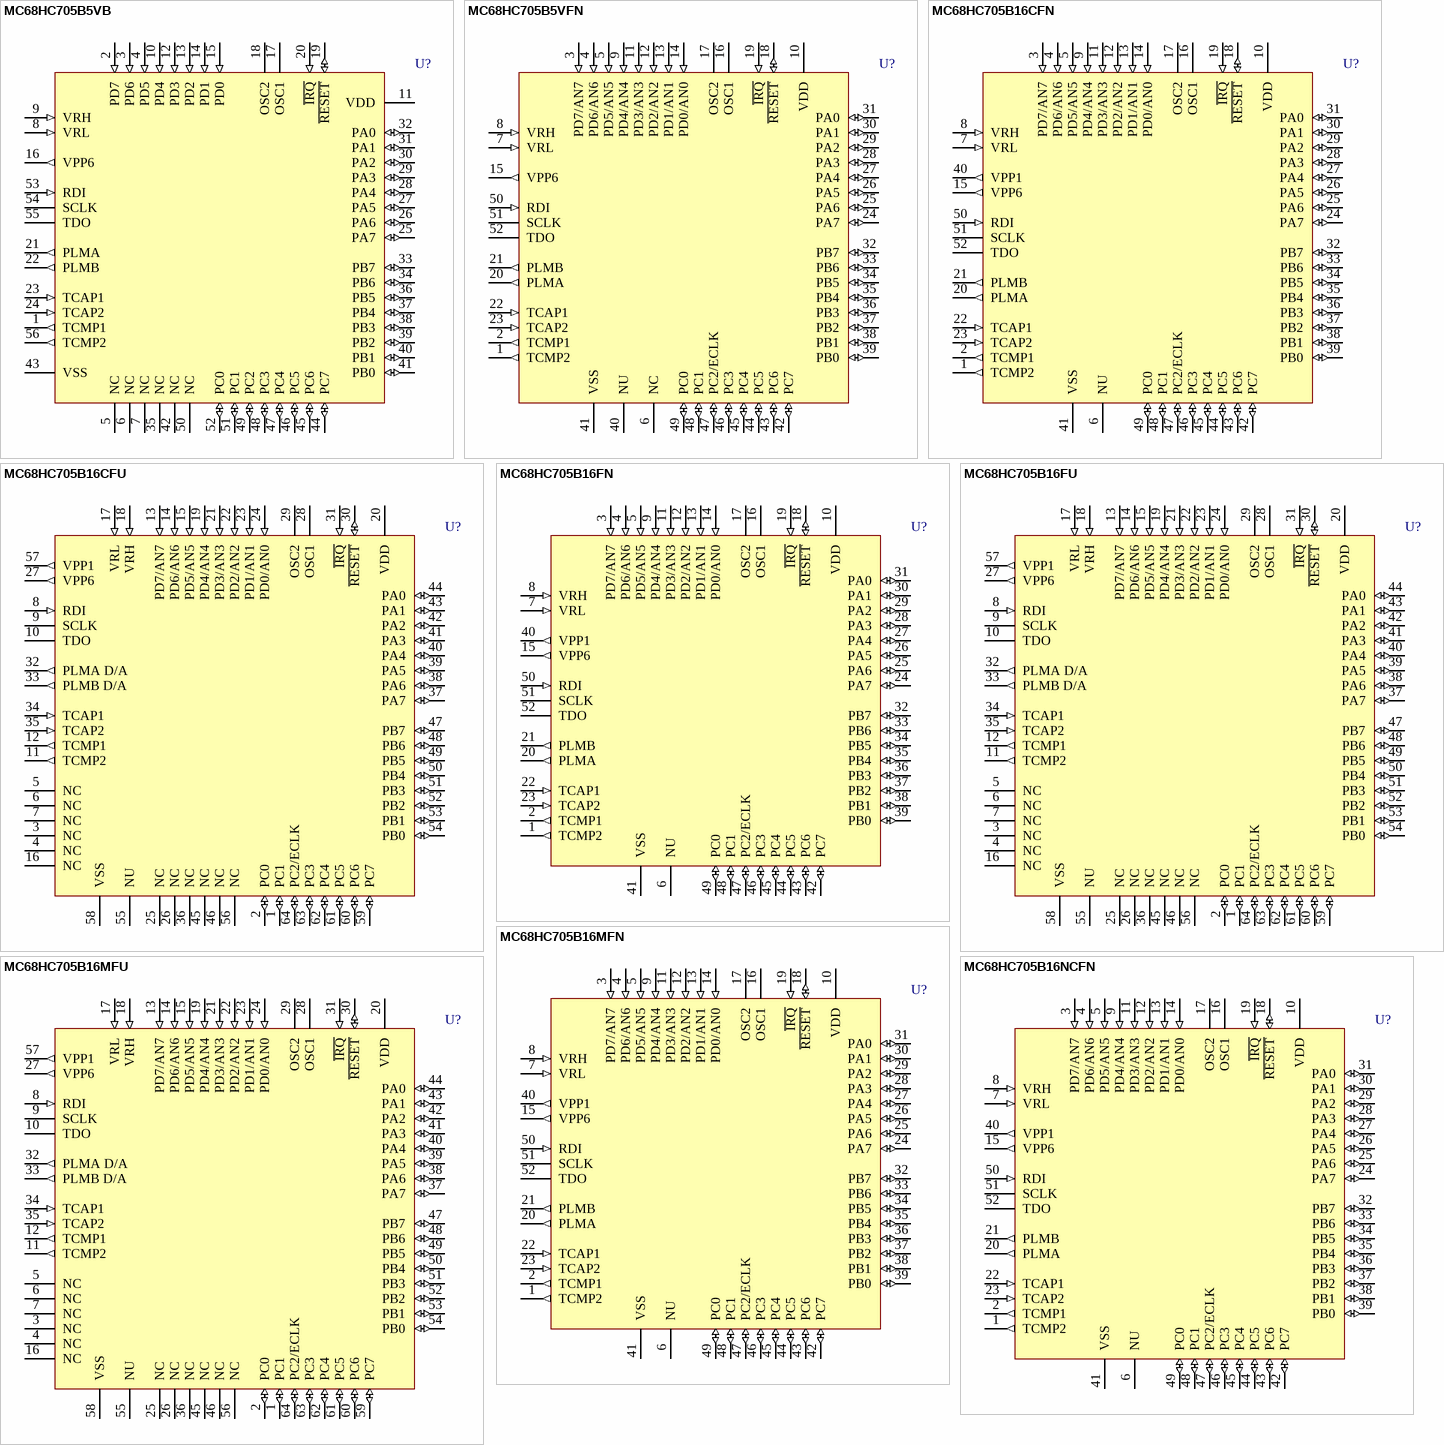
[diagram p66: symbols MC68HC705B5VB to MC68HC705B16NCFN]

## MC68HC705B5VB
designator U?
8-Bit Microcontroller; Published: 17-Jan-2003; LatestRevisionDate: 06-Jun-2005; LatestRevisionNote: Stylized 3D Model Added.; DatasheetVersion: Rev 4, 1999; PackageVersion: rev4, 1999; PackageReference: 859-01; Publisher: Altium Limited; PackageDescription: DIP; 56 Leads; Row Spacing 15.24 mm; Pitch 1.778 mm; ComponentLink1Description: Manufacturer Link; ComponentLink1URL: http://www.freescale.com/; ComponentLink2Description: Datasheet; ComponentLink2URL: http://www.freescale.com/files/microcontrollers/doc/data_sheet/MC68HC05B6.pdf
footprint 859-01 (DIP; 56 Leads; Row Spacing 15.24 mm; Pitch 1.778 mm)
3D model 859-01 (DIP; 56 Leads; Row Spacing 15.24 mm; Pitch 1.778 mm)
pins: 1 TCMP1 (out), 2 PD7 (in), 3 PD6 (in), 4 PD5 (in), 5 NC, 6 NC, 7 NC, 8 VRL (in), 9 VRH (in), 10 PD4 (in), 11 VDD (power), 12 PD3 (in), 13 PD2 (in), 14 PD1 (in), 15 PD0 (in), 16 VPP6 (out), 17 OSC1, 18 OSC2, 19 ~{RESET} (io), 20 ~{IRQ} (in), 21 PLMA (out), 22 PLMB (out), 23 TCAP1 (in), 24 TCAP2 (in), 25 PA7 (io), 26 PA6 (io), 27 PA5 (io), 28 PA4 (io), 29 PA3 (io), 30 PA2 (io), 31 PA1 (io), 32 PA0 (io), 33 PB7 (io), 34 PB6 (io), 35 NC, 36 PB5 (io), 37 PB4 (io), 38 PB3 (io), 39 PB2 (io), 40 PB1 (io), 41 PB0 (io), 42 NC, 43 VSS (power), 44 PC7 (io), 45 PC6 (io), 46 PC5 (io), 47 PC4 (io), 48 PC3 (io), 49 PC2 (io), 50 NC, 51 PC1 (io), 52 PC0 (io), 53 RDI (in), 54 SCLK (hiz), 55 TDO (hiz), 56 TCMP2 (out)

## MC68HC705B5VFN
designator U?
8-Bit Microcontroller; Note: Pin 40 (NU) should be tied to VSS in an electrically noisy environment.; Published: 17-Jan-2003; LatestRevisionDate: 13-Apr-2006; LatestRevisionNote: IPC-7351 Footprint Added.; DatasheetVersion: Rev 4, 1999; PackageVersion: rev3, 1997; PackageReference: 778-02; Publisher: Altium Limited; PackageDescription: 52-Pin Plastic Leaded Chip Carrier 1.27 mm Pitch; ComponentLink1Description: Manufacturer Link; ComponentLink1URL: http://www.freescale.com/; ComponentLink2Description: Datasheet; ComponentLink2URL: http://www.freescale.com/files/microcontrollers/doc/data_sheet/MC68HC05B6.pdf
footprint 778-02_N (Leaded Chip Carrier, 52-Leads, Body 19x19mm, Pitch 1.27mm, IPC Medium Density)
footprint 778-02_L (Leaded Chip Carrier, 52-Leads, Body 19x19mm, Pitch 1.27mm, IPC High Density)
footprint 778-02_M (Leaded Chip Carrier, 52-Leads, Body 19x19mm, Pitch 1.27mm, IPC Low Density)
3D model MC68HC705-778-02 (52-Pin Plastic Leaded Chip Carrier 1.27 mm Pitch)
pins: 1 TCMP2 (out), 2 TCMP1 (out), 3 PD7/AN7 (in), 4 PD6/AN6 (in), 5 PD5/AN5 (in), 6 NC, 7 VRL (in), 8 VRH (in), 9 PD4/AN4 (in), 10 VDD (power), 11 PD3/AN3 (in), 12 PD2/AN2 (in), 13 PD1/AN1 (in), 14 PD0/AN0 (in), 15 VPP6 (out), 16 OSC1, 17 OSC2, 18 ~{RESET} (io), 19 ~{IRQ} (in), 20 PLMA (out), 21 PLMB (out), 22 TCAP1 (in), 23 TCAP2 (in), 24 PA7 (io), 25 PA6 (io), 26 PA5 (io), 27 PA4 (io), 28 PA3 (io), 29 PA2 (io), 30 PA1 (io), 31 PA0 (io), 32 PB7 (io), 33 PB6 (io), 34 PB5 (io), 35 PB4 (io), 36 PB3 (io), 37 PB2 (io), 38 PB1 (io), 39 PB0 (io), 40 NU, 41 VSS (power), 42 PC7 (io), 43 PC6 (io), 44 PC5 (io), 45 PC4 (io), 46 PC3 (io), 47 PC2/ECLK (io), 48 PC1 (io), 49 PC0 (io), 50 RDI (in), 51 SCLK (hiz), 52 TDO (hiz)

## MC68HC705B16CFN
designator U?
8-Bit Microcontroller; Note: Pin 6 (NU) should be tied to VSS in an electrically noisy environment.; Published: 17-Jan-2003; LatestRevisionDate: 13-Apr-2006; LatestRevisionNote: IPC-7351 Footprint Added.; DatasheetVersion: Rev 4, 1999; PackageVersion: rev3, 1997; PackageReference: 778-02; Publisher: Altium Limited; PackageDescription: 52-Pin Plastic Leaded Chip Carrier 1.27 mm Pitch; ComponentLink1Description: Manufacturer Link; ComponentLink1URL: http://www.freescale.com/; ComponentLink2Description: Datasheet; ComponentLink2URL: http://www.freescale.com/files/microcontrollers/doc/data_sheet/MC68HC05B6.pdf
footprint 778-02_N (Leaded Chip Carrier, 52-Leads, Body 19x19mm, Pitch 1.27mm, IPC Medium Density)
footprint 778-02_L (Leaded Chip Carrier, 52-Leads, Body 19x19mm, Pitch 1.27mm, IPC High Density)
footprint 778-02_M (Leaded Chip Carrier, 52-Leads, Body 19x19mm, Pitch 1.27mm, IPC Low Density)
3D model MC68HC705-778-02 (52-Pin Plastic Leaded Chip Carrier 1.27 mm Pitch)
pins: 1 TCMP2 (out), 2 TCMP1 (out), 3 PD7/AN7 (in), 4 PD6/AN6 (in), 5 PD5/AN5 (in), 6 NU, 7 VRL (in), 8 VRH (in), 9 PD4/AN4 (in), 10 VDD (power), 11 PD3/AN3 (in), 12 PD2/AN2 (in), 13 PD1/AN1 (in), 14 PD0/AN0 (in), 15 VPP6 (out), 16 OSC1, 17 OSC2, 18 ~{RESET} (io), 19 ~{IRQ} (in), 20 PLMA (out), 21 PLMB (out), 22 TCAP1 (in), 23 TCAP2 (in), 24 PA7 (io), 25 PA6 (io), 26 PA5 (io), 27 PA4 (io), 28 PA3 (io), 29 PA2 (io), 30 PA1 (io), 31 PA0 (io), 32 PB7 (io), 33 PB6 (io), 34 PB5 (io), 35 PB4 (io), 36 PB3 (io), 37 PB2 (io), 38 PB1 (io), 39 PB0 (io), 40 VPP1 (out), 41 VSS (power), 42 PC7 (io), 43 PC6 (io), 44 PC5 (io), 45 PC4 (io), 46 PC3 (io), 47 PC2/ECLK (io), 48 PC1 (io), 49 PC0 (io), 50 RDI (in), 51 SCLK (hiz), 52 TDO (hiz)

## MC68HC705B16CFU
designator U?
8-Bit Microcontroller; Note: Pin 55 (NU) should be tied to VSS in an electrically noisy environment.; Published: 17-Jan-2003; LatestRevisionDate: 13-Apr-2006; LatestRevisionNote: IPC-7351 Footprint Added.; DatasheetVersion: Rev 4, 1999; PackageVersion: rev4, Jul-2002; PackageReference: 840C; Publisher: Altium Limited; PackageDescription: 64-Pin Quad Flat Pack 0.8 mm Pitch; ComponentLink1Description: Manufacturer Link; ComponentLink1URL: http://www.freescale.com/; ComponentLink2Description: Datasheet; ComponentLink2URL: http://www.freescale.com/files/microcontrollers/doc/data_sheet/MC68HC05B6.pdf
footprint 840C_N (QFP, 64-Leads, Body 14x14mm, Pitch 0.8mm, IPC Medium Density)
footprint 840C_L (QFP, 64-Leads, Body 14x14mm, Pitch 0.8mm, IPC High Density)
footprint 840C_M (QFP, 64-Leads, Body 14x14mm, Pitch 0.8mm, IPC Low Density)
3D model MC68HC705-840C (64-Pin Quad Flat Pack 0.8 mm Pitch)
pins: 1 PC1 (io), 2 PC0 (io), 3 NC, 4 NC, 5 NC, 6 NC, 7 NC, 8 RDI (in), 9 SCLK (hiz), 10 TDO (hiz), 11 TCMP2 (out), 12 TCMP1 (out), 13 PD7/AN7 (in), 14 PD6/AN6 (in), 15 PD5/AN5 (in), 16 NC, 17 VRL (in), 18 VRH (in), 19 PD4/AN4 (in), 20 VDD (power), 21 PD3/AN3 (in), 22 PD2/AN2 (in), 23 PD1/AN1 (in), 24 PD0/AN0 (in), 25 NC, 26 NC, 27 VPP6 (out), 28 OSC1, 29 OSC2, 30 ~{RESET} (io), 31 ~{IRQ} (in), 32 PLMA D/A (out), 33 PLMB D/A (out), 34 TCAP1 (in), 35 TCAP2 (in), 36 NC, 37 PA7 (io), 38 PA6 (io), 39 PA5 (io), 40 PA4 (io), 41 PA3 (io), 42 PA2 (io), 43 PA1 (io), 44 PA0 (io), 45 NC, 46 NC, 47 PB7 (io), 48 PB6 (io), 49 PB5 (io), 50 PB4 (io), 51 PB3 (io), 52 PB2 (io), 53 PB1 (io), 54 PB0 (io), 55 NU, 56 NC, 57 VPP1 (out), 58 VSS (power), 59 PC7 (io), 60 PC6 (io), 61 PC5 (io), 62 PC4 (io), 63 PC3 (io), 64 PC2/ECLK (io)

## MC68HC705B16FN
designator U?
8-Bit Microcontroller; Note: Pin 6 (NU) should be tied to VSS in an electrically noisy environment.; Published: 17-Jan-2003; LatestRevisionDate: 13-Apr-2006; LatestRevisionNote: IPC-7351 Footprint Added.; DatasheetVersion: Rev 4, 1999; PackageVersion: rev3, 1997; PackageReference: 778-02; Publisher: Altium Limited; PackageDescription: 52-Pin Plastic Leaded Chip Carrier 1.27 mm Pitch; ComponentLink1Description: Manufacturer Link; ComponentLink1URL: http://www.freescale.com/; ComponentLink2Description: Datasheet; ComponentLink2URL: http://www.freescale.com/files/microcontrollers/doc/data_sheet/MC68HC05B6.pdf
footprint 778-02_N (Leaded Chip Carrier, 52-Leads, Body 19x19mm, Pitch 1.27mm, IPC Medium Density)
footprint 778-02_L (Leaded Chip Carrier, 52-Leads, Body 19x19mm, Pitch 1.27mm, IPC High Density)
footprint 778-02_M (Leaded Chip Carrier, 52-Leads, Body 19x19mm, Pitch 1.27mm, IPC Low Density)
3D model MC68HC705-778-02 (52-Pin Plastic Leaded Chip Carrier 1.27 mm Pitch)
pins: 1 TCMP2 (out), 2 TCMP1 (out), 3 PD7/AN7 (in), 4 PD6/AN6 (in), 5 PD5/AN5 (in), 6 NU, 7 VRL (in), 8 VRH (in), 9 PD4/AN4 (in), 10 VDD (power), 11 PD3/AN3 (in), 12 PD2/AN2 (in), 13 PD1/AN1 (in), 14 PD0/AN0 (in), 15 VPP6 (out), 16 OSC1, 17 OSC2, 18 ~{RESET} (io), 19 ~{IRQ} (in), 20 PLMA (out), 21 PLMB (out), 22 TCAP1 (in), 23 TCAP2 (in), 24 PA7 (io), 25 PA6 (io), 26 PA5 (io), 27 PA4 (io), 28 PA3 (io), 29 PA2 (io), 30 PA1 (io), 31 PA0 (io), 32 PB7 (io), 33 PB6 (io), 34 PB5 (io), 35 PB4 (io), 36 PB3 (io), 37 PB2 (io), 38 PB1 (io), 39 PB0 (io), 40 VPP1 (out), 41 VSS (power), 42 PC7 (io), 43 PC6 (io), 44 PC5 (io), 45 PC4 (io), 46 PC3 (io), 47 PC2/ECLK (io), 48 PC1 (io), 49 PC0 (io), 50 RDI (in), 51 SCLK (hiz), 52 TDO (hiz)

## MC68HC705B16FU
designator U?
8-Bit Microcontroller; Note: Pin 55 (NU) should be tied to VSS in an electrically noisy environment.; Published: 17-Jan-2003; LatestRevisionDate: 13-Apr-2006; LatestRevisionNote: IPC-7351 Footprint Added.; DatasheetVersion: Rev 4, 1999; PackageVersion: rev4, Jul-2002; PackageReference: 840C; Publisher: Altium Limited; PackageDescription: 64-Pin Quad Flat Pack 0.8 mm Pitch; ComponentLink1Description: Manufacturer Link; ComponentLink1URL: http://www.freescale.com/; ComponentLink2Description: Datasheet; ComponentLink2URL: http://www.freescale.com/files/microcontrollers/doc/data_sheet/MC68HC05B6.pdf
footprint 840C_N (QFP, 64-Leads, Body 14x14mm, Pitch 0.8mm, IPC Medium Density)
footprint 840C_L (QFP, 64-Leads, Body 14x14mm, Pitch 0.8mm, IPC High Density)
footprint 840C_M (QFP, 64-Leads, Body 14x14mm, Pitch 0.8mm, IPC Low Density)
3D model MC68HC705-840C (64-Pin Quad Flat Pack 0.8 mm Pitch)
pins: 1 PC1 (io), 2 PC0 (io), 3 NC, 4 NC, 5 NC, 6 NC, 7 NC, 8 RDI (in), 9 SCLK (hiz), 10 TDO (hiz), 11 TCMP2 (out), 12 TCMP1 (out), 13 PD7/AN7 (in), 14 PD6/AN6 (in), 15 PD5/AN5 (in), 16 NC, 17 VRL (in), 18 VRH (in), 19 PD4/AN4 (in), 20 VDD (power), 21 PD3/AN3 (in), 22 PD2/AN2 (in), 23 PD1/AN1 (in), 24 PD0/AN0 (in), 25 NC, 26 NC, 27 VPP6 (out), 28 OSC1, 29 OSC2, 30 ~{RESET} (io), 31 ~{IRQ} (in), 32 PLMA D/A (out), 33 PLMB D/A (out), 34 TCAP1 (in), 35 TCAP2 (in), 36 NC, 37 PA7 (io), 38 PA6 (io), 39 PA5 (io), 40 PA4 (io), 41 PA3 (io), 42 PA2 (io), 43 PA1 (io), 44 PA0 (io), 45 NC, 46 NC, 47 PB7 (io), 48 PB6 (io), 49 PB5 (io), 50 PB4 (io), 51 PB3 (io), 52 PB2 (io), 53 PB1 (io), 54 PB0 (io), 55 NU, 56 NC, 57 VPP1 (out), 58 VSS (power), 59 PC7 (io), 60 PC6 (io), 61 PC5 (io), 62 PC4 (io), 63 PC3 (io), 64 PC2/ECLK (io)

## MC68HC705B16MFN
designator U?
8-Bit Microcontroller; Note: Pin 6 (NU) should be tied to VSS in an electrically noisy environment.; Published: 17-Jan-2003; LatestRevisionDate: 13-Apr-2006; LatestRevisionNote: IPC-7351 Footprint Added.; DatasheetVersion: Rev 4, 1999; PackageVersion: rev3, 1997; PackageReference: 778-02; Publisher: Altium Limited; PackageDescription: 52-Pin Plastic Leaded Chip Carrier 1.27 mm Pitch; ComponentLink1Description: Manufacturer Link; ComponentLink1URL: http://www.freescale.com/; ComponentLink2Description: Datasheet; ComponentLink2URL: http://www.freescale.com/files/microcontrollers/doc/data_sheet/MC68HC05B6.pdf
footprint 778-02_N (Leaded Chip Carrier, 52-Leads, Body 19x19mm, Pitch 1.27mm, IPC Medium Density)
footprint 778-02_L (Leaded Chip Carrier, 52-Leads, Body 19x19mm, Pitch 1.27mm, IPC High Density)
footprint 778-02_M (Leaded Chip Carrier, 52-Leads, Body 19x19mm, Pitch 1.27mm, IPC Low Density)
3D model MC68HC705-778-02 (52-Pin Plastic Leaded Chip Carrier 1.27 mm Pitch)
pins: 1 TCMP2 (out), 2 TCMP1 (out), 3 PD7/AN7 (in), 4 PD6/AN6 (in), 5 PD5/AN5 (in), 6 NU, 7 VRL (in), 8 VRH (in), 9 PD4/AN4 (in), 10 VDD (power), 11 PD3/AN3 (in), 12 PD2/AN2 (in), 13 PD1/AN1 (in), 14 PD0/AN0 (in), 15 VPP6 (out), 16 OSC1, 17 OSC2, 18 ~{RESET} (io), 19 ~{IRQ} (in), 20 PLMA (out), 21 PLMB (out), 22 TCAP1 (in), 23 TCAP2 (in), 24 PA7 (io), 25 PA6 (io), 26 PA5 (io), 27 PA4 (io), 28 PA3 (io), 29 PA2 (io), 30 PA1 (io), 31 PA0 (io), 32 PB7 (io), 33 PB6 (io), 34 PB5 (io), 35 PB4 (io), 36 PB3 (io), 37 PB2 (io), 38 PB1 (io), 39 PB0 (io), 40 VPP1 (out), 41 VSS (power), 42 PC7 (io), 43 PC6 (io), 44 PC5 (io), 45 PC4 (io), 46 PC3 (io), 47 PC2/ECLK (io), 48 PC1 (io), 49 PC0 (io), 50 RDI (in), 51 SCLK (hiz), 52 TDO (hiz)

## MC68HC705B16MFU
designator U?
8-Bit Microcontroller; Note: Pin 55 (NU) should be tied to VSS in an electrically noisy environment.; Published: 17-Jan-2003; LatestRevisionDate: 13-Apr-2006; LatestRevisionNote: IPC-7351 Footprint Added.; DatasheetVersion: Rev 4, 1999; PackageVersion: rev4, Jul-2002; PackageReference: 840C; Publisher: Altium Limited; PackageDescription: 64-Pin Quad Flat Pack 0.8 mm Pitch; ComponentLink1Description: Manufacturer Link; ComponentLink1URL: http://www.freescale.com/; ComponentLink2Description: Datasheet; ComponentLink2URL: http://www.freescale.com/files/microcontrollers/doc/data_sheet/MC68HC05B6.pdf
footprint 840C_N (QFP, 64-Leads, Body 14x14mm, Pitch 0.8mm, IPC Medium Density)
footprint 840C_L (QFP, 64-Leads, Body 14x14mm, Pitch 0.8mm, IPC High Density)
footprint 840C_M (QFP, 64-Leads, Body 14x14mm, Pitch 0.8mm, IPC Low Density)
3D model MC68HC705-840C (64-Pin Quad Flat Pack 0.8 mm Pitch)
pins: 1 PC1 (io), 2 PC0 (io), 3 NC, 4 NC, 5 NC, 6 NC, 7 NC, 8 RDI (in), 9 SCLK (hiz), 10 TDO (hiz), 11 TCMP2 (out), 12 TCMP1 (out), 13 PD7/AN7 (in), 14 PD6/AN6 (in), 15 PD5/AN5 (in), 16 NC, 17 VRL (in), 18 VRH (in), 19 PD4/AN4 (in), 20 VDD (power), 21 PD3/AN3 (in), 22 PD2/AN2 (in), 23 PD1/AN1 (in), 24 PD0/AN0 (in), 25 NC, 26 NC, 27 VPP6 (out), 28 OSC1, 29 OSC2, 30 ~{RESET} (io), 31 ~{IRQ} (in), 32 PLMA D/A (out), 33 PLMB D/A (out), 34 TCAP1 (in), 35 TCAP2 (in), 36 NC, 37 PA7 (io), 38 PA6 (io), 39 PA5 (io), 40 PA4 (io), 41 PA3 (io), 42 PA2 (io), 43 PA1 (io), 44 PA0 (io), 45 NC, 46 NC, 47 PB7 (io), 48 PB6 (io), 49 PB5 (io), 50 PB4 (io), 51 PB3 (io), 52 PB2 (io), 53 PB1 (io), 54 PB0 (io), 55 NU, 56 NC, 57 VPP1 (out), 58 VSS (power), 59 PC7 (io), 60 PC6 (io), 61 PC5 (io), 62 PC4 (io), 63 PC3 (io), 64 PC2/ECLK (io)

## MC68HC705B16NCFN
designator U?
8-Bit Microcontroller; Note: Pin 6 (NU) should be tied to VSS in an electrically noisy environment.; Published: 17-Jan-2003; LatestRevisionDate: 13-Apr-2006; LatestRevisionNote: IPC-7351 Footprint Added.; DatasheetVersion: Rev 4, 1999; PackageVersion: rev3, 1997; PackageReference: 778-02; Publisher: Altium Limited; PackageDescription: 52-Pin Plastic Leaded Chip Carrier 1.27 mm Pitch; ComponentLink1Description: Manufacturer Link; ComponentLink1URL: http://www.freescale.com/; ComponentLink2Description: Datasheet; ComponentLink2URL: http://www.freescale.com/files/microcontrollers/doc/data_sheet/MC68HC05B6.pdf
footprint 778-02_N (Leaded Chip Carrier, 52-Leads, Body 19x19mm, Pitch 1.27mm, IPC Medium Density)
footprint 778-02_L (Leaded Chip Carrier, 52-Leads, Body 19x19mm, Pitch 1.27mm, IPC High Density)
footprint 778-02_M (Leaded Chip Carrier, 52-Leads, Body 19x19mm, Pitch 1.27mm, IPC Low Density)
3D model MC68HC705-778-02 (52-Pin Plastic Leaded Chip Carrier 1.27 mm Pitch)
pins: 1 TCMP2 (out), 2 TCMP1 (out), 3 PD7/AN7 (in), 4 PD6/AN6 (in), 5 PD5/AN5 (in), 6 NU, 7 VRL (in), 8 VRH (in), 9 PD4/AN4 (in), 10 VDD (power), 11 PD3/AN3 (in), 12 PD2/AN2 (in), 13 PD1/AN1 (in), 14 PD0/AN0 (in), 15 VPP6 (out), 16 OSC1, 17 OSC2, 18 ~{RESET} (io), 19 ~{IRQ} (in), 20 PLMA (out), 21 PLMB (out), 22 TCAP1 (in), 23 TCAP2 (in), 24 PA7 (io), 25 PA6 (io), 26 PA5 (io), 27 PA4 (io), 28 PA3 (io), 29 PA2 (io), 30 PA1 (io), 31 PA0 (io), 32 PB7 (io), 33 PB6 (io), 34 PB5 (io), 35 PB4 (io), 36 PB3 (io), 37 PB2 (io), 38 PB1 (io), 39 PB0 (io), 40 VPP1 (out), 41 VSS (power), 42 PC7 (io), 43 PC6 (io), 44 PC5 (io), 45 PC4 (io), 46 PC3 (io), 47 PC2/ECLK (io), 48 PC1 (io), 49 PC0 (io), 50 RDI (in), 51 SCLK (hiz), 52 TDO (hiz)

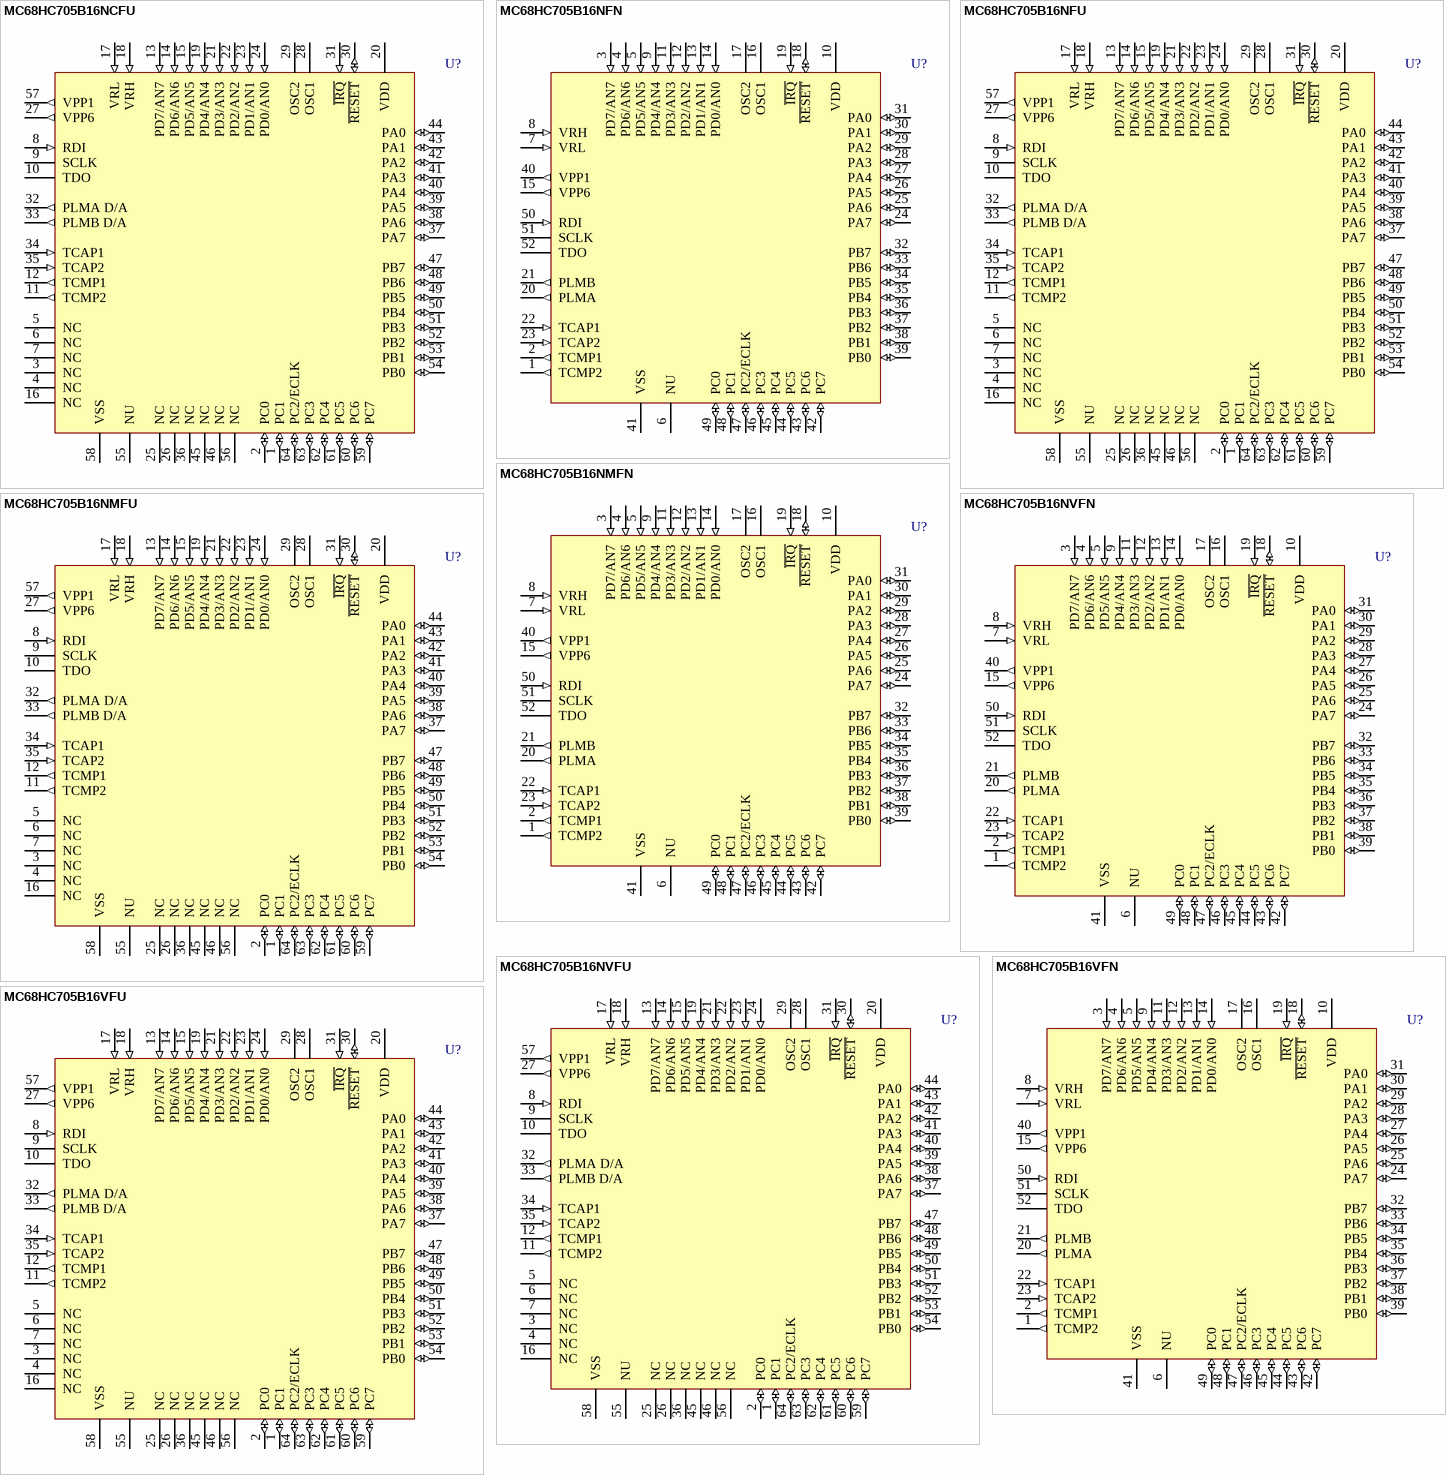
[diagram p67: symbols MC68HC705B16NCFU to MC68HC705B16VFU]

## MC68HC705B16NCFU
designator U?
8-Bit Microcontroller; Note: Pin 55 (NU) should be tied to VSS in an electrically noisy environment.; Published: 17-Jan-2003; LatestRevisionDate: 13-Apr-2006; LatestRevisionNote: IPC-7351 Footprint Added.; DatasheetVersion: Rev 4, 1999; PackageVersion: rev4, Jul-2002; PackageReference: 840C; Publisher: Altium Limited; PackageDescription: 64-Pin Quad Flat Pack 0.8 mm Pitch; ComponentLink1Description: Manufacturer Link; ComponentLink1URL: http://www.freescale.com/; ComponentLink2Description: Datasheet; ComponentLink2URL: http://www.freescale.com/files/microcontrollers/doc/data_sheet/MC68HC05B6.pdf
footprint 840C_N (QFP, 64-Leads, Body 14x14mm, Pitch 0.8mm, IPC Medium Density)
footprint 840C_L (QFP, 64-Leads, Body 14x14mm, Pitch 0.8mm, IPC High Density)
footprint 840C_M (QFP, 64-Leads, Body 14x14mm, Pitch 0.8mm, IPC Low Density)
3D model MC68HC705-840C (64-Pin Quad Flat Pack 0.8 mm Pitch)
pins: 1 PC1 (io), 2 PC0 (io), 3 NC, 4 NC, 5 NC, 6 NC, 7 NC, 8 RDI (in), 9 SCLK (hiz), 10 TDO (hiz), 11 TCMP2 (out), 12 TCMP1 (out), 13 PD7/AN7 (in), 14 PD6/AN6 (in), 15 PD5/AN5 (in), 16 NC, 17 VRL (in), 18 VRH (in), 19 PD4/AN4 (in), 20 VDD (power), 21 PD3/AN3 (in), 22 PD2/AN2 (in), 23 PD1/AN1 (in), 24 PD0/AN0 (in), 25 NC, 26 NC, 27 VPP6 (out), 28 OSC1, 29 OSC2, 30 ~{RESET} (io), 31 ~{IRQ} (in), 32 PLMA D/A (out), 33 PLMB D/A (out), 34 TCAP1 (in), 35 TCAP2 (in), 36 NC, 37 PA7 (io), 38 PA6 (io), 39 PA5 (io), 40 PA4 (io), 41 PA3 (io), 42 PA2 (io), 43 PA1 (io), 44 PA0 (io), 45 NC, 46 NC, 47 PB7 (io), 48 PB6 (io), 49 PB5 (io), 50 PB4 (io), 51 PB3 (io), 52 PB2 (io), 53 PB1 (io), 54 PB0 (io), 55 NU, 56 NC, 57 VPP1 (out), 58 VSS (power), 59 PC7 (io), 60 PC6 (io), 61 PC5 (io), 62 PC4 (io), 63 PC3 (io), 64 PC2/ECLK (io)

## MC68HC705B16NFN
designator U?
8-Bit Microcontroller; Note: Pin 6 (NU) should be tied to VSS in an electrically noisy environment.; Published: 17-Jan-2003; LatestRevisionDate: 13-Apr-2006; LatestRevisionNote: IPC-7351 Footprint Added.; DatasheetVersion: Rev 4, 1999; PackageVersion: rev3, 1997; PackageReference: 778-02; Publisher: Altium Limited; PackageDescription: 52-Pin Plastic Leaded Chip Carrier 1.27 mm Pitch; ComponentLink1Description: Manufacturer Link; ComponentLink1URL: http://www.freescale.com/; ComponentLink2Description: Datasheet; ComponentLink2URL: http://www.freescale.com/files/microcontrollers/doc/data_sheet/MC68HC05B6.pdf
footprint 778-02_N (Leaded Chip Carrier, 52-Leads, Body 19x19mm, Pitch 1.27mm, IPC Medium Density)
footprint 778-02_L (Leaded Chip Carrier, 52-Leads, Body 19x19mm, Pitch 1.27mm, IPC High Density)
footprint 778-02_M (Leaded Chip Carrier, 52-Leads, Body 19x19mm, Pitch 1.27mm, IPC Low Density)
3D model MC68HC705-778-02 (52-Pin Plastic Leaded Chip Carrier 1.27 mm Pitch)
pins: 1 TCMP2 (out), 2 TCMP1 (out), 3 PD7/AN7 (in), 4 PD6/AN6 (in), 5 PD5/AN5 (in), 6 NU, 7 VRL (in), 8 VRH (in), 9 PD4/AN4 (in), 10 VDD (power), 11 PD3/AN3 (in), 12 PD2/AN2 (in), 13 PD1/AN1 (in), 14 PD0/AN0 (in), 15 VPP6 (out), 16 OSC1, 17 OSC2, 18 ~{RESET} (io), 19 ~{IRQ} (in), 20 PLMA (out), 21 PLMB (out), 22 TCAP1 (in), 23 TCAP2 (in), 24 PA7 (io), 25 PA6 (io), 26 PA5 (io), 27 PA4 (io), 28 PA3 (io), 29 PA2 (io), 30 PA1 (io), 31 PA0 (io), 32 PB7 (io), 33 PB6 (io), 34 PB5 (io), 35 PB4 (io), 36 PB3 (io), 37 PB2 (io), 38 PB1 (io), 39 PB0 (io), 40 VPP1 (out), 41 VSS (power), 42 PC7 (io), 43 PC6 (io), 44 PC5 (io), 45 PC4 (io), 46 PC3 (io), 47 PC2/ECLK (io), 48 PC1 (io), 49 PC0 (io), 50 RDI (in), 51 SCLK (hiz), 52 TDO (hiz)